# Altium integrated library AMCC PowerPC 405.IntLib: 46 symbols (part 1 of 12)
Pins are listed as number, name and electrical type; pins without a type are passive.

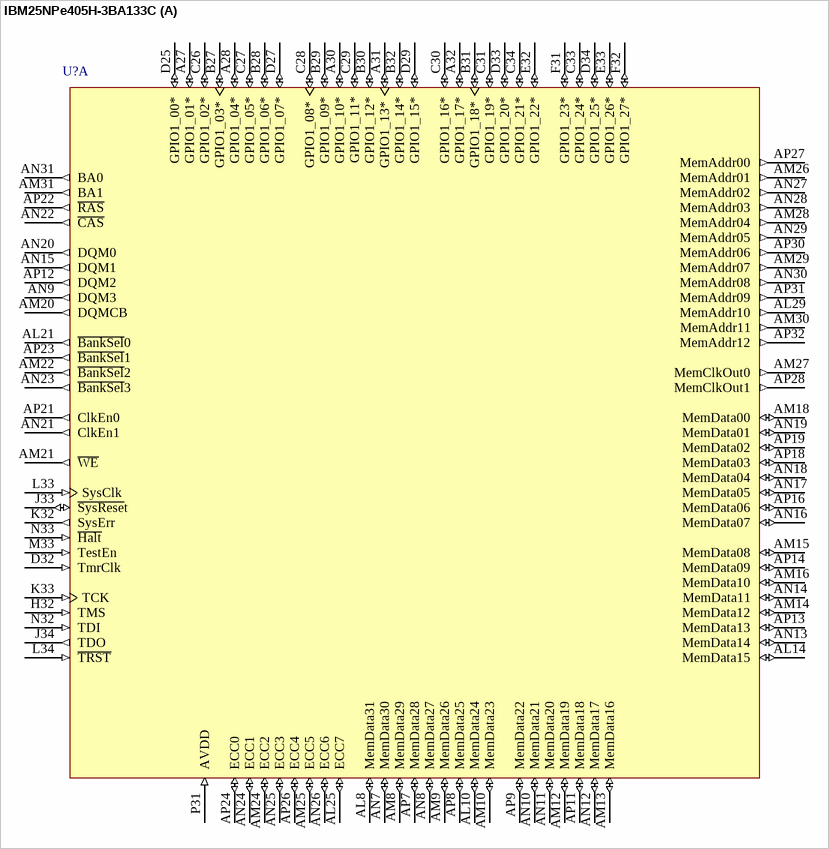
[diagram p0: symbol IBM25NPe405H-3BA133C]

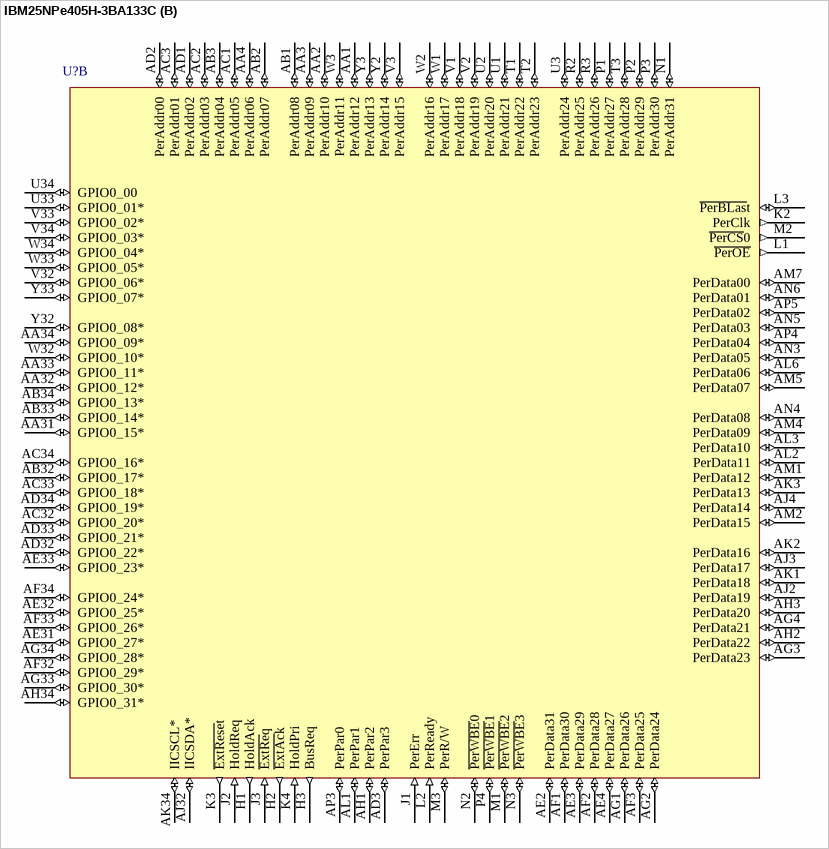
[diagram p1: symbol IBM25NPe405H-3BA133C]

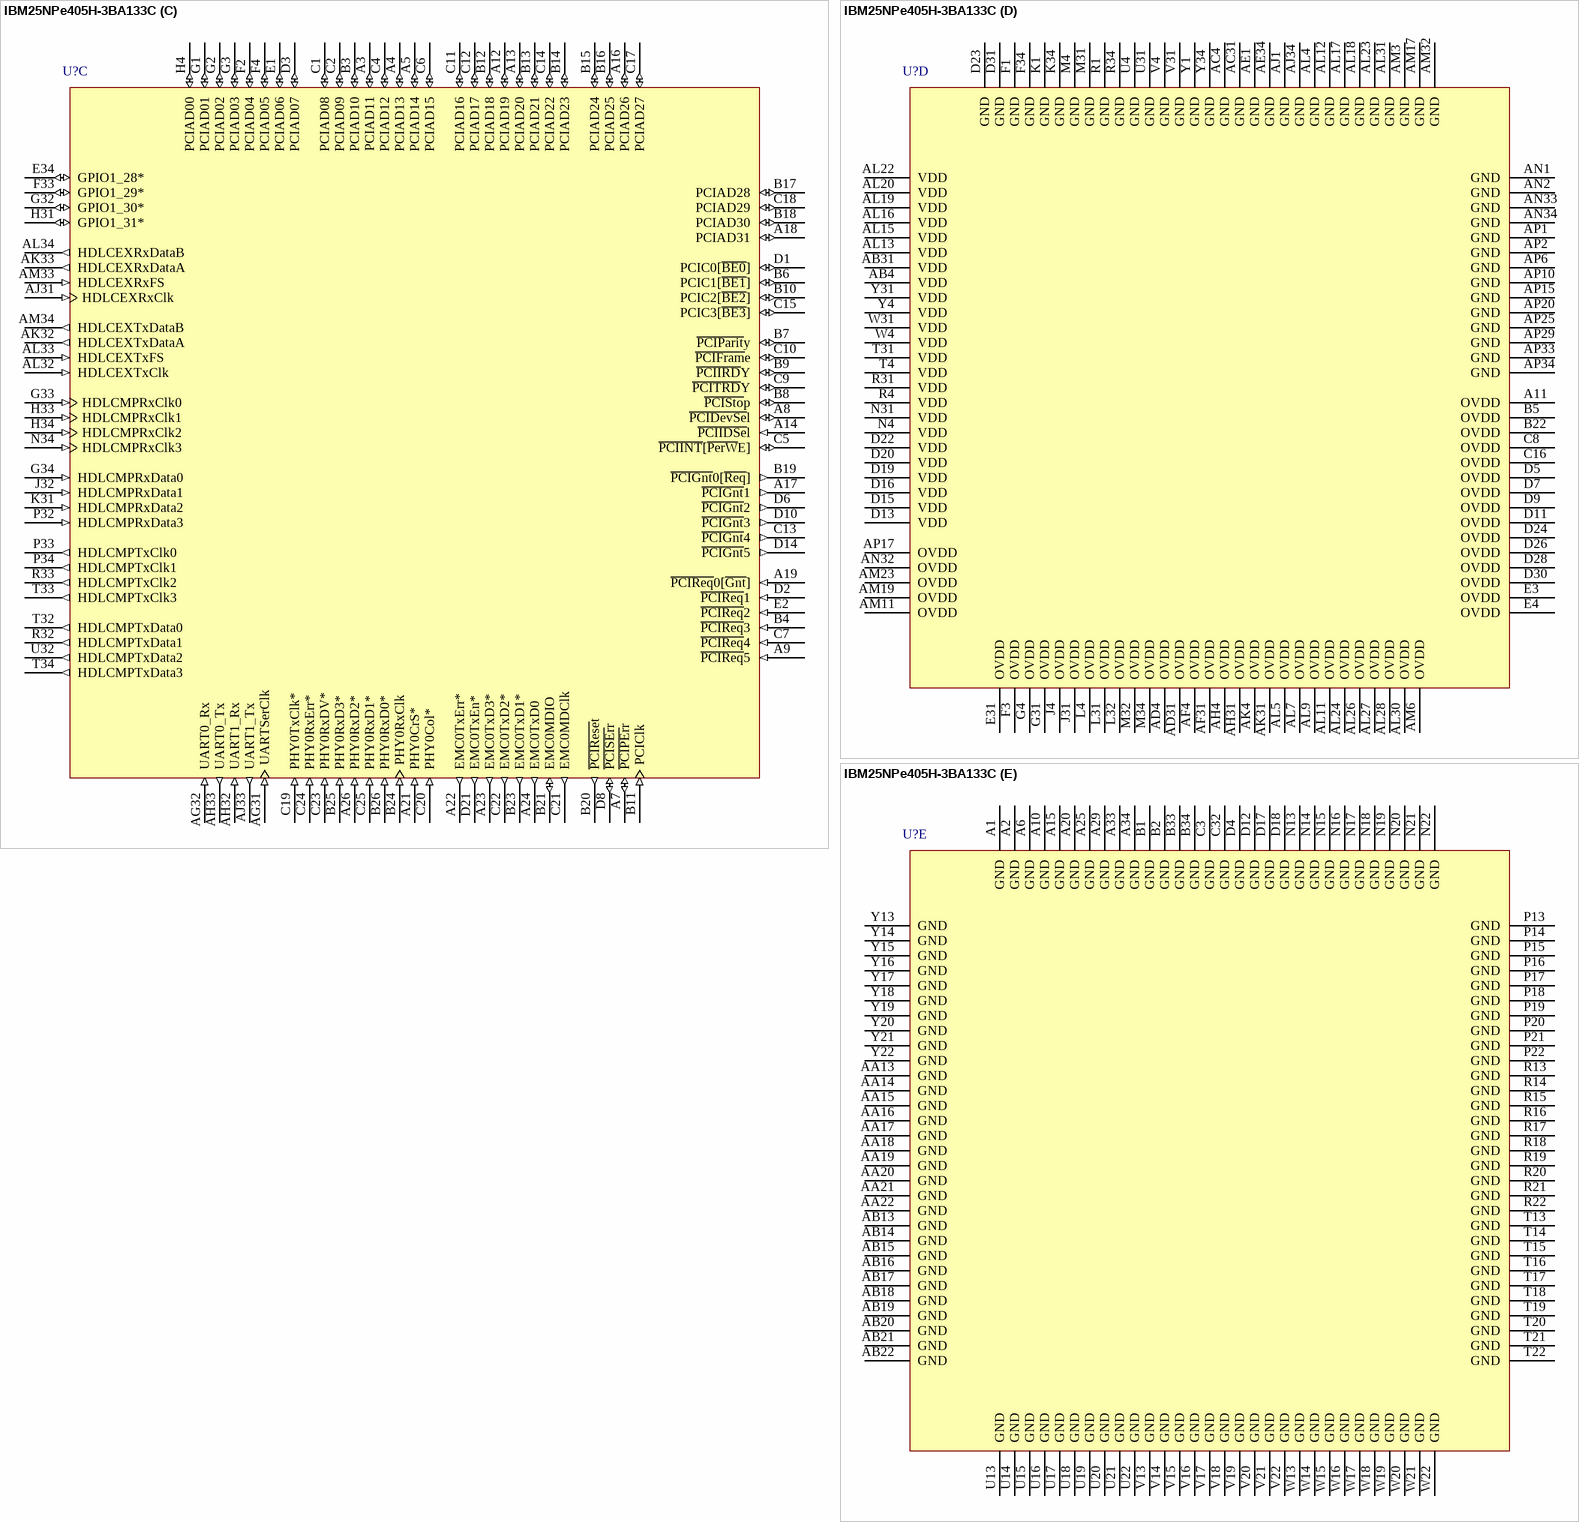
[diagram p2: symbol IBM25NPe405H-3BA133C]

## IBM25NPe405H-3BA133C
designator U?
PowerNP Technology with IBM PowerPC 405H Embedded Processor, 133MHz, 35mm, 580 Ball E-PBGA; Note: Pin names with asterisk have multiplexed and multipurpose signals. See description field for those functions.; Published: 6-Oct-2005; LatestRevisionDate: 13-Apr-2006; LatestRevisionNote: IPC-7351 Footprint Added.; DatasheetVersion: rev1.00, Sep-2004; PackageVersion: Sep-2004; PackageReference: E-PBGA580; Publisher: Altium Limited; PackageDescription: 580-Ball Enhanced Plastic Ball Grid Array; ComponentLink1Description: Manufacturer Link; ComponentLink1URL: http://www.amcc.com/; ComponentLink2Description: Datasheet; ComponentLink2URL: https://www.amcc.com/MyAMCC/retrieveDocument/PowerPC/NPe405/NPe405H_DS2011__v1_00.pdf
footprint E-PBGA580 (BGA, 580-Leads, Body 35x35mm, Pitch 1mm)
3D model NPe405H-E-PBGA580 (580-Ball Enhanced Plastic Ball Grid Array)
part A pins: A27 GPIO1_01* (io) "[HDLCMPTxData4][PHY1RxD1][PHY1Rx2D1]", A28 GPIO1_04* (io) "[HDLCMPRxData4][EMC1TxD0][EMC1Tx2D0]", A30 GPIO1_10* (io) "[HDLCMPTxClk6][PHY1CrS][PHY1CrS2DV]", A31 GPIO1_13* (io) "[HDLCMPRxClk6][PHY1RxClk]", A32 GPIO1_17* (io) "[HDLCMPTxEn7][PHY1TxClk]", AL8 MemData31 (io), AL10 MemData24 (io), AL14 MemData15 (io), AL21 ~{BankSel}0 (out), AL25 ECC7 (io), AL29 MemAddr10 (out), AM8 MemData29 (io), AM9 MemData26 (io), AM10 MemData23 (io), AM12 MemData19 (io), AM13 MemData16 (io), AM14 MemData12 (io), AM15 MemData08 (io), AM16 MemData10 (io), AM18 MemData00 (io), AM20 DQMCB (out), AM21 ~{WE} (out), AM22 ~{BankSel}2 (out), AM24 ECC2 (io), AM25 ECC5 (io), AM26 MemAddr01 (out), AM27 MemClkOut0 (out), AM28 MemAddr04 (out), AM29 MemAddr07 (out), AM30 MemAddr11 (out), AM31 BA1 (out), AN7 MemData30 (io), AN8 MemData27 (io), AN9 DQM3 (out), AN10 MemData21 (io), AN11 MemData20 (io), AN12 MemData17 (io), AN13 MemData14 (io), AN14 MemData11 (io), AN15 DQM1 (out), AN16 MemData07 (io), AN17 MemData05 (io), AN18 MemData04 (io), AN19 MemData01 (io), AN20 DQM0 (out), AN21 ClkEn1 (out), AN22 ~{CAS} (out), AN23 ~{BankSel}3 (out), AN24 ECC1 (io), AN25 ECC3 (io), AN26 ECC6 (io), AN27 MemAddr02 (out), AN28 MemAddr03 (out), AN29 MemAddr05 (out), AN30 MemAddr08 (out), AN31 BA0 (out), AP7 MemData28 (io), AP8 MemData25 (io), AP9 MemData22 (io), AP11 MemData18 (io), AP12 DQM2 (out), AP13 MemData13 (io), AP14 MemData09 (io), AP16 MemData06 (io), AP18 MemData03 (io), AP19 MemData02 (io), AP21 ClkEn0 (out), AP22 ~{RAS} (out), AP23 ~{BankSel}1 (out), AP24 ECC0 (io), AP26 ECC4 (io), AP27 MemAddr00 (out), AP28 MemClkOut1 (out), AP30 MemAddr06 (out), AP31 MemAddr09 (out), AP32 MemAddr12 (out), B27 GPIO1_03* (io) "[HDLCMPRxClk4][PHY1RxD3][PHY1Rx3D1]", B28 GPIO1_06* (io) "[HDLCMPTxData5][EMC1TxD2][EMC1Tx3D0]", B29 GPIO1_09* (io) "[HDLCMPRxData5][PHY1CrS3DV][PHY1RxDV]", B30 GPIO1_12* (io) "[HDLCMPTxEn6][EMC1TxEn][EMC1Tx2En]", B31 GPIO1_18* (io) "[HDLCMPRxClk7]", B32 GPIO1_14* (io) "[HDLCMPRxData6][PHY1Col][PHY1Rx3Er]", C26 GPIO1_02* (io) "[HDLCMPTxEn4][PHY1RxD2][PHY1Rx3D0]", C27 GPIO1_05* (io) "[HDLCMPTxClk5][EMC1TxD1][EMC1Tx2D1]", C28 GPIO1_08* (io) "[HDLCMPRxClk5][PHY1RxErr][PHY1Rx2Er]", C29 GPIO1_11* (io) "[HDLCMPTxData6][EMC1TxErr][EMC1Tx3En]", C30 GPIO1_16* (io) "[HDLCMPTxData7]", C31 GPIO1_19* (io) "[HDLCMPRxData7]", C33 GPIO1_24* (io) "[HDLCEXTxEnA][U\A\R\T\1_\R\T\S]", C34 GPIO1_21* (io) "[HDLCMPTxEn1][U\A\R\T\1\_\D\S\R]", D25 GPIO1_00* (io) "[HDLCMPTxClk4][PHY1RxD0][PHY1Rx2D0]", D27 GPIO1_07* (io) "[HDLCMPTxEn5][EMC1TxD3][EMC1Tx3D1]", D29 GPIO1_15* (io) "[HDLCMPTxClk7]", D32 TmrClk (in), D33 GPIO1_20* (io) "[HDLCMPTxEn0][U\A\R\T\1\_\C\T\S]", D34 GPIO1_25* (io) "[HDLCEXTxEnB][U\A\R\T\1\_D\T\R]", E32 GPIO1_22* (io) "[HDLCMPTxEn2][U\A\R\T\1\_D\C\D]", E33 GPIO1_26* (io) "[U\A\R\T\0\_\C\T\S]", F31 GPIO1_23* (io) "[HDLCMPTxEn3][U\A\R\T\1\_R\I]", F32 GPIO1_27* (io) "[U\A\R\T\0_\D\S\R]", H32 TMS (in), J33 ~{SysRese}t (io), J34 TDO (out), K32 SysErr (out), K33 TCK (in), L33 SysClk (in), L34 ~{TRST} (in), M33 TestEn (in), N32 TDI (in), N33 ~{Halt} (in), P31 AVDD (in)
part B pins: AA1 PerAddr12 (io), AA2 PerAddr10 (io), AA3 PerAddr09 (io), AA4 PerAddr06 (io), AA31 GPIO0_15* (io) "[D\M\A\A\c\k\2]", AA32 GPIO0_12* (io) "[D\M\A\R\e\q\3][P\e\r\C\S\4]", AA33 GPIO0_11* (io) "[D\M\A\R\e\q\2]", AA34 GPIO0_09* (io) "[D\M\A\R\e\q\0]", AB1 PerAddr08 (io), AB2 PerAddr07 (io), AB3 PerAddr04 (io), AB32 GPIO0_17* (io) "[IRQ0]", AB33 GPIO0_14* (io) "[D\M\A\A\c\k\1]", AB34 GPIO0_13* (io) "[D\M\A\A\c\k\0]", AC1 PerAddr05 (io), AC2 PerAddr03 (io), AC3 PerAddr01 (io), AC32 GPIO0_20* (io) "[IRQ3]", AC33 GPIO0_18* (io) "[IRQ1]", AC34 GPIO0_16* (io) "[D\M\A\A\c\k\3][P\e\r\C\S\5]", AD1 PerAddr02 (io), AD2 PerAddr00 (io), AD3 PerPar3 (io), AD32 GPIO0_22* (io) "[IRQ5]", AD33 GPIO0_21* (io) "[IRQ4]", AD34 GPIO0_19* (io) "[IRQ2]", AE2 PerData31 (io), AE3 PerData29 (io), AE4 PerData27 (io), AE31 GPIO0_27* (io) "[E\O\T\3\/T\C\3][P\e\r\C\S\7]", AE32 GPIO0_25* (io) "[E\O\T\1\/T\C\1]", AE33 GPIO0_23* (io) "[IRQ6][P\e\r\C\S\6]", AF1 PerData30 (io), AF2 PerData28 (io), AF3 PerData25 (io), AF32 GPIO0_29* (io) "[P\e\r\C\S\2]", AF33 GPIO0_26* (io) "[E\O\T\2\/T\C\2]", AF34 GPIO0_24* (io) "[E\O\T\0/T\C\0]", AG1 PerData26 (io), AG2 PerData24 (io), AG3 PerData23 (io), AG4 PerData21 (io), AG33 GPIO0_30* (io) "[P\e\r\C\S\3]", AG34 GPIO0_28* (io) "[P\e\r\C\S\1]", AH1 PerPar2 (io), AH2 PerData22 (io), AH3 PerData20 (io), AH34 GPIO0_31* (io) "[TrcClk]", AJ2 PerData19 (io), AJ3 PerData17 (io), AJ4 PerData14 (io), AJ32 IICSDA* (io) "[IECSDA]", AK1 PerData18 (io), AK2 PerData16 (io), AK3 PerData13 (io), AK34 IICSCL* (io) "[IECSCL]", AL1 PerPar1 (io), AL2 PerData11 (io), AL3 PerData10 (io), AL6 PerData06 (io), AM1 PerData12 (io), AM2 PerData15 (io), AM4 PerData09 (io), AM5 PerData07 (io), AM7 PerData00 (io), AN3 PerData05 (io), AN4 PerData08 (io), AN5 PerData03 (io), AN6 PerData01 (io), AP3 PerPar0 (io), AP4 PerData04 (io), AP5 PerData02 (io), H1 HoldAck (out), H2 ~{ExtAc}k (out), H3 BusReq (out), J1 PerErr (in), J2 HoldReq (in), J3 ~{ExtRe}q (in), K2 PerClk (out), K3 ~{ExtRese}t (out), K4 HoldPri (in), L1 ~{PerOE} (out), L2 PerReady (in), L3 ~{PerBLas}t (io), M1 ~{PerWBE}2 (io), M2 ~{PerCS}0 (out), M3 PerR/W (io), N1 PerAddr31 (io), N2 ~{PerWBE}0 (io), N3 ~{PerWBE}3 (io), P1 PerAddr27 (io), P2 PerAddr29 (io), P3 PerAddr30 (io), P4 ~{PerWBE}1 (io), R2 PerAddr25 (io), R3 PerAddr26 (io), T1 PerAddr22 (io), T2 PerAddr23 (io), T3 PerAddr28 (io), U1 PerAddr21 (io), U2 PerAddr20 (io), U3 PerAddr24 (io), U33 GPIO0_01* (io) "[TS1E]", U34 GPIO0_00 (io), V1 PerAddr18 (io), V2 PerAddr19 (io), V3 PerAddr15 (io), V32 GPIO0_06* (io) "[TS4]", V33 GPIO0_02* (io) "[TS2E]", V34 GPIO0_03* (io) "[TS1O]", W1 PerAddr17 (io), W2 PerAddr16 (io), W3 PerAddr11 (io), W32 GPIO0_10* (io) "[D\MA\R\e\q\1]", W33 GPIO0_05* (io) "[TS3]", W34 GPIO0_04* (io) "[TS2O]", Y2 PerAddr14 (io), Y3 PerAddr13 (io), Y32 GPIO0_08* (io) "[TS6]", Y33 GPIO0_07* (io) "[TS5]"
part C pins: A3 PCIAD11 (io), A4 PCIAD13 (io), A5 PCIAD14 (io), A7 ~{PCIPEr}r (io), A8 ~{PCIDevSe}l (io), A9 ~{PCIReq}5 (in), A12 PCIAD19 (io), A13 PCIAD20 (io), A14 ~{PCIIDSe}l (in), A16 PCIAD26 (io), A17 ~{PCIGnt}1 (out), A18 PCIAD31 (io), A19 ~{PCIReq}0[~{Gnt}] (in), A21 PHY0CrS* (in) "[PHY0CrS0DV]", A22 EMC0TxErr* (out) "[EMC0Tx1En]", A23 EMC0TxD3* (out) "[EMC0Tx1D1][EMC0Tx3D]", A24 EMC0TxD0 (out), A26 PHY0RxD2* (in) "[PHY0Rx1D0][PHY0Rx2D]", AG31 UARTSerClk (in), AG32 UART0_Rx (in), AH32 UART1_Rx (in), AH33 UART0_Tx (out), AJ31 HDLCEXRxClk (in), AJ33 UART1_Tx (out), AK32 HDLCEXTxDataA (out), AK33 HDLCEXRxDataA (out), AL32 HDLCEXTxClk (in), AL33 HDLCEXTxFS (in), AL34 HDLCEXRxDataB (out), AM33 HDLCEXRxFS (in), AM34 HDLCEXTxDataB (out), B3 PCIAD10 (io), B4 ~{PCIReq}3 (in), B6 PCIC1[~{BE1}] (io), B7 ~{PCIParit}y (io), B8 ~{PCISto}p (io), B9 ~{PCIIRD}Y (io), B10 PCIC2[~{BE2}] (io), B11 PCIClk (in), B12 PCIAD18 (io), B13 PCIAD21 (io), B14 PCIAD23 (io), B15 PCIAD24 (io), B16 PCIAD25 (io), B17 PCIAD28 (io), B18 PCIAD30 (io), B19 ~{PCIGnt}0[~{Req}] (out), B20 ~{PCIRese}t (out), B21 EMC0MDIO (io), B23 EMC0TxD1* (out) "[EMC0Tx0D1][EMC0Tx1D]", B24 PHY0RxClk (in), B25 PHY0RxD3* (in) "[PHY0Rx1D1][PHY0Rx3D]", B26 PHY0RxD0* (in) "[PHY0Rx0D0][PHY0Rx0D]", C1 PCIAD08 (io), C2 PCIAD09 (io), C4 PCIAD12 (io), C5 ~{PCIINT}[~{PerW}E] (io), C6 PCIAD15 (io), C7 ~{PCIReq}4 (in), C9 ~{PCITRD}Y (io), C10 ~{PCIFram}e (io), C11 PCIAD16 (io), C12 PCIAD17 (io), C13 ~{PCIGnt}4 (out), C14 PCIAD22 (io), C15 PCIC3[~{BE3}] (io), C17 PCIAD27 (io), C18 PCIAD29 (io), C19 PHY0TxClk* (in) "[PHY0RefClk]", C20 PHY0Col* (in) "[PHY0Rx1Er]", C21 EMC0MDClk (out), C22 EMC0TxD2* (out) "[EMC0Tx1D0][EMC0Tx2D]", C23 PHY0RxDV* (in) "[PHY0CrS1DV]", C24 PHY0RxErr* (in) "[PHY0Rx0Er]", C25 PHY0RxD1* (in) "[PHY0Rx0D1][PHY0Rx1D]", D1 PCIC0[~{BE0}] (io), D2 ~{PCIReq}1 (in), D3 PCIAD07 (io), D6 ~{PCIGnt}2 (out), D8 ~{PCISEr}r (io), D10 ~{PCIGnt}3 (out), D14 ~{PCIGnt}5 (out), D21 EMC0TxEn* (out) "[EMC0Tx0En][EMC0Sync]", E1 PCIAD06 (io), E2 ~{PCIReq}2 (in), E34 GPIO1_28* (io) "[U\A\R\T\0\_\D\C\D]", F2 PCIAD04 (io), F4 PCIAD05 (io), F33 GPIO1_29* (io) "[U\A\R\T\0\_R\I\]x", G1 PCIAD01 (io), G2 PCIAD02 (io), G3 PCIAD03 (io), G32 GPIO1_30* (io) "[U\A\R\T\0\_R\T\S]", G33 HDLCMPRxClk0 (in), G34 HDLCMPRxData0 (in), H4 PCIAD00 (io), H31 GPIO1_31* (io) "[U\A\R\T\0\_\D\T\R]", H33 HDLCMPRxClk1 (in), H34 HDLCMPRxClk2 (in), J32 HDLCMPRxData1 (in), K31 HDLCMPRxData2 (in), N34 HDLCMPRxClk3 (in), P32 HDLCMPRxData3 (in), P33 HDLCMPTxClk0 (out), P34 HDLCMPTxClk1 (out), R32 HDLCMPTxData1 (out), R33 HDLCMPTxClk2 (out), T32 HDLCMPTxData0 (out), T33 HDLCMPTxClk3 (out), T34 HDLCMPTxData3 (out), U32 HDLCMPTxData2 (out)
part D pins: A11 OVDD (power), AB4 VDD (power), AB31 VDD (power), AC4 GND (power), AC31 GND (power), AD4 OVDD (power), AD31 OVDD (power), AE1 GND (power), AE34 GND (power), AF4 OVDD (power), AF31 OVDD (power), AH4 OVDD (power), AH31 OVDD (power), AJ1 GND (power), AJ34 GND (power), AK4 OVDD (power), AK31 OVDD (power), AL4 GND (power), AL5 OVDD (power), AL7 OVDD (power), AL9 OVDD (power), AL11 OVDD (power), AL12 GND (power), AL13 VDD (power), AL15 VDD (power), AL16 VDD (power), AL17 GND (power), AL18 GND (power), AL19 VDD (power), AL20 VDD (power), AL22 VDD (power), AL23 GND (power), AL24 OVDD (power), AL26 OVDD (power), AL27 OVDD (power), AL28 OVDD (power), AL30 OVDD (power), AL31 GND (power), AM3 GND (power), AM6 OVDD (power), AM11 OVDD (power), AM17 GND (power), AM19 OVDD (power), AM23 OVDD (power), AM32 GND (power), AN1 GND (power), AN2 GND (power), AN32 OVDD (power), AN33 GND (power), AN34 GND (power), AP1 GND (power), AP2 GND (power), AP6 GND (power), AP10 GND (power), AP15 GND (power), AP17 OVDD (power), AP20 GND (power), AP25 GND (power), AP29 GND (power), AP33 GND (power), AP34 GND (power), B5 OVDD (power), B22 OVDD (power), C8 OVDD (power), C16 OVDD (power), D5 OVDD (power), D7 OVDD (power), D9 OVDD (power), D11 OVDD (power), D13 VDD (power), D15 VDD (power), D16 VDD (power), D19 VDD (power), D20 VDD (power), D22 VDD (power), D23 GND (power), D24 OVDD (power), D26 OVDD (power), D28 OVDD (power), D30 OVDD (power), D31 GND (power), E3 OVDD (power), E4 OVDD (power), E31 OVDD (power), F1 GND (power), F3 OVDD (power), F34 GND (power), G4 OVDD (power), G31 OVDD (power), J4 OVDD (power), J31 OVDD (power), K1 GND (power), K34 GND (power), L4 OVDD (power), L31 OVDD (power), L32 OVDD (power), M4 GND (power), M31 GND (power), M32 OVDD (power), M34 OVDD (power), N4 VDD (power), N31 VDD (power), R1 GND (power), R4 VDD (power), R31 VDD (power), R34 GND (power), T4 VDD (power), T31 VDD (power), U4 GND (power), U31 GND (power), V4 GND (power), V31 GND (power), W4 VDD (power), W31 VDD (power), Y1 GND (power), Y4 VDD (power), Y31 VDD (power), Y34 GND (power)
part E pins: A1 GND (power), A2 GND (power), A6 GND (power), A10 GND (power), A15 GND (power), A20 GND (power), A25 GND (power), A29 GND (power), A33 GND (power), A34 GND (power), AA13 GND (power) "Thermal Balls", AA14 GND (power) "Thermal Balls", AA15 GND (power) "Thermal Balls", AA16 GND (power) "Thermal Balls", AA17 GND (power) "Thermal Balls", AA18 GND (power) "Thermal Balls", AA19 GND (power) "Thermal Balls", AA20 GND (power) "Thermal Balls", AA21 GND (power) "Thermal Balls", AA22 GND (power) "Thermal Balls", AB13 GND (power) "Thermal Balls", AB14 GND (power) "Thermal Balls", AB15 GND (power) "Thermal Balls", AB16 GND (power) "Thermal Balls", AB17 GND (power) "Thermal Balls", AB18 GND (power) "Thermal Balls", AB19 GND (power) "Thermal Balls", AB20 GND (power) "Thermal Balls", AB21 GND (power) "Thermal Balls", AB22 GND (power) "Thermal Balls", B1 GND (power), B2 GND (power), B33 GND (power), B34 GND (power), C3 GND (power), C32 GND (power), D4 GND (power), D12 GND (power), D17 GND (power), D18 GND (power), N13 GND (power) "Thermal Balls", N14 GND (power) "Thermal Balls", N15 GND (power) "Thermal Balls", N16 GND (power) "Thermal Balls", N17 GND (power) "Thermal Balls", N18 GND (power) "Thermal Balls", N19 GND (power) "Thermal Balls", N20 GND (power) "Thermal Balls", N21 GND (power) "Thermal Balls", N22 GND (power) "Thermal Balls", P13 GND (power) "Thermal Balls", P14 GND (power) "Thermal Balls", P15 GND (power) "Thermal Balls", P16 GND (power) "Thermal Balls", P17 GND (power) "Thermal Balls", P18 GND (power) "Thermal Balls", P19 GND (power) "Thermal Balls", P20 GND (power) "Thermal Balls", P21 GND (power) "Thermal Balls", P22 GND (power) "Thermal Balls", R13 GND (power) "Thermal Balls", R14 GND (power) "Thermal Balls", R15 GND (power) "Thermal Balls", R16 GND (power) "Thermal Balls", R17 GND (power) "Thermal Balls", R18 GND (power) "Thermal Balls", R19 GND (power) "Thermal Balls", R20 GND (power) "Thermal Balls", R21 GND (power) "Thermal Balls", R22 GND (power) "Thermal Balls", T13 GND (power) "Thermal Balls", T14 GND (power) "Thermal Balls", T15 GND (power) "Thermal Balls", T16 GND (power) "Thermal Balls", T17 GND (power) "Thermal Balls", T18 GND (power) "Thermal Balls", T19 GND (power) "Thermal Balls", T20 GND (power) "Thermal Balls", T21 GND (power) "Thermal Balls", T22 GND (power) "Thermal Balls", U13 GND (power) "Thermal Balls", U14 GND (power) "Thermal Balls", U15 GND (power) "Thermal Balls", U16 GND (power) "Thermal Balls", U17 GND (power) "Thermal Balls", U18 GND (power) "Thermal Balls", U19 GND (power) "Thermal Balls", U20 GND (power) "Thermal Balls", U21 GND (power) "Thermal Balls", U22 GND (power) "Thermal Balls", V13 GND (power) "Thermal Balls", V14 GND (power) "Thermal Balls", V15 GND (power) "Thermal Balls", V16 GND (power) "Thermal Balls", V17 GND (power) "Thermal Balls", V18 GND (power) "Thermal Balls", V19 GND (power) "Thermal Balls", V20 GND (power) "Thermal Balls", V21 GND (power) "Thermal Balls", V22 GND (power) "Thermal Balls", W13 GND (power) "Thermal Balls", W14 GND (power) "Thermal Balls", W15 GND (power) "Thermal Balls", W16 GND (power) "Thermal Balls", W17 GND (power) "Thermal Balls", W18 GND (power) "Thermal Balls", W19 GND (power) "Thermal Balls", W20 GND (power) "Thermal Balls", W21 GND (power) "Thermal Balls", W22 GND (power) "Thermal Balls", Y13 GND (power) "Thermal Balls", Y14 GND (power) "Thermal Balls", Y15 GND (power) "Thermal Balls", Y16 GND (power) "Thermal Balls", Y17 GND (power) "Thermal Balls", Y18 GND (power) "Thermal Balls", Y19 GND (power) "Thermal Balls", Y20 GND (power) "Thermal Balls", Y21 GND (power) "Thermal Balls", Y22 GND (power) "Thermal Balls"

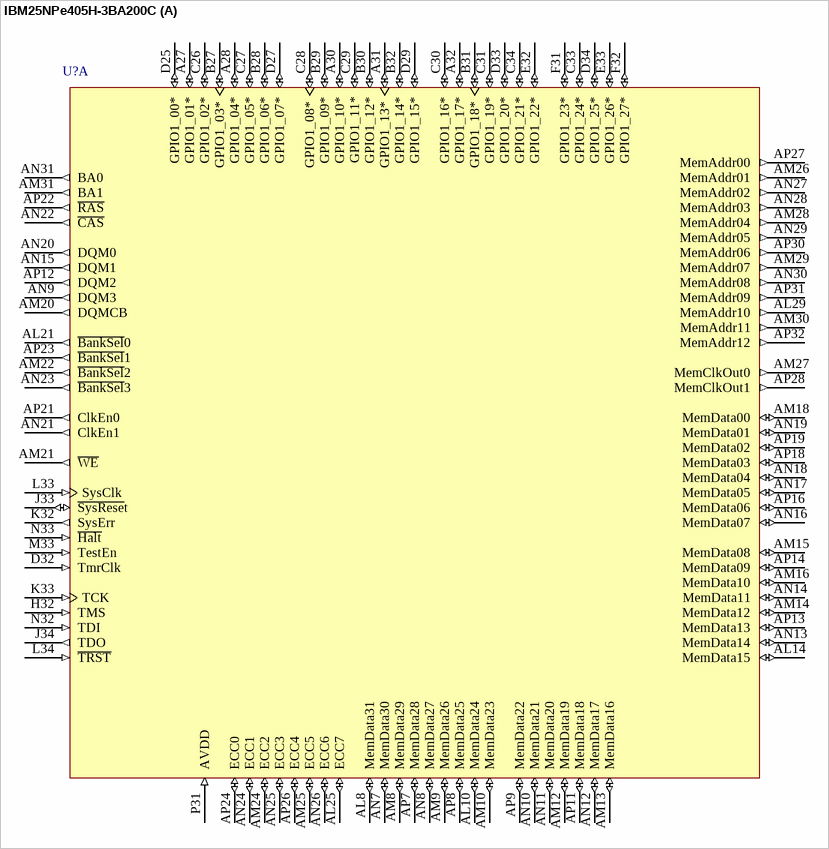
[diagram p3: symbol IBM25NPe405H-3BA200C]

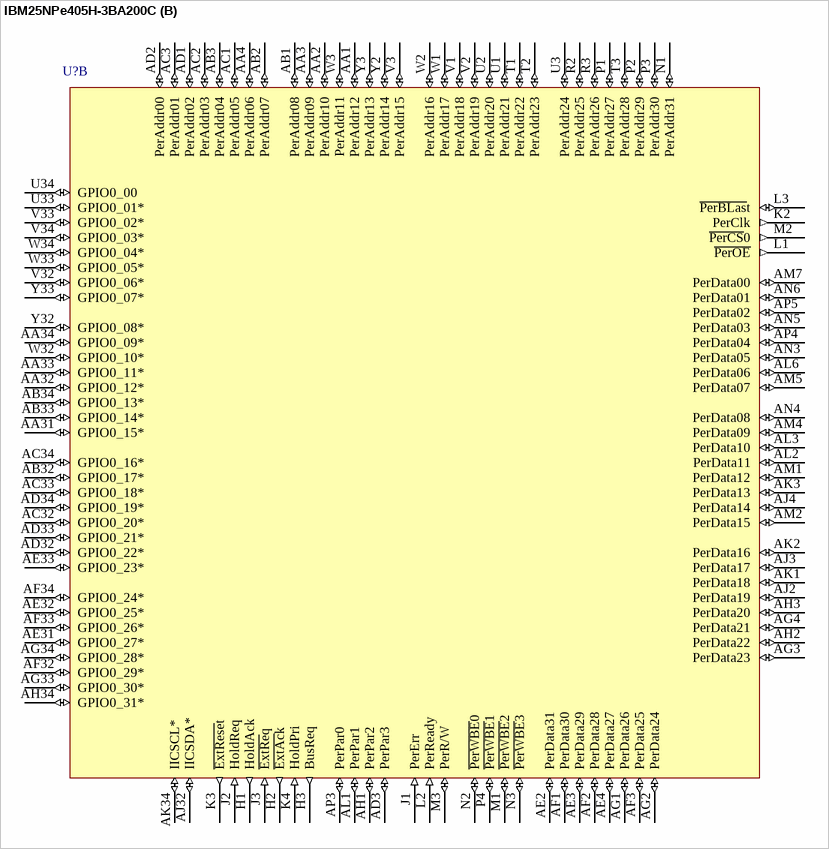
[diagram p4: symbol IBM25NPe405H-3BA200C]

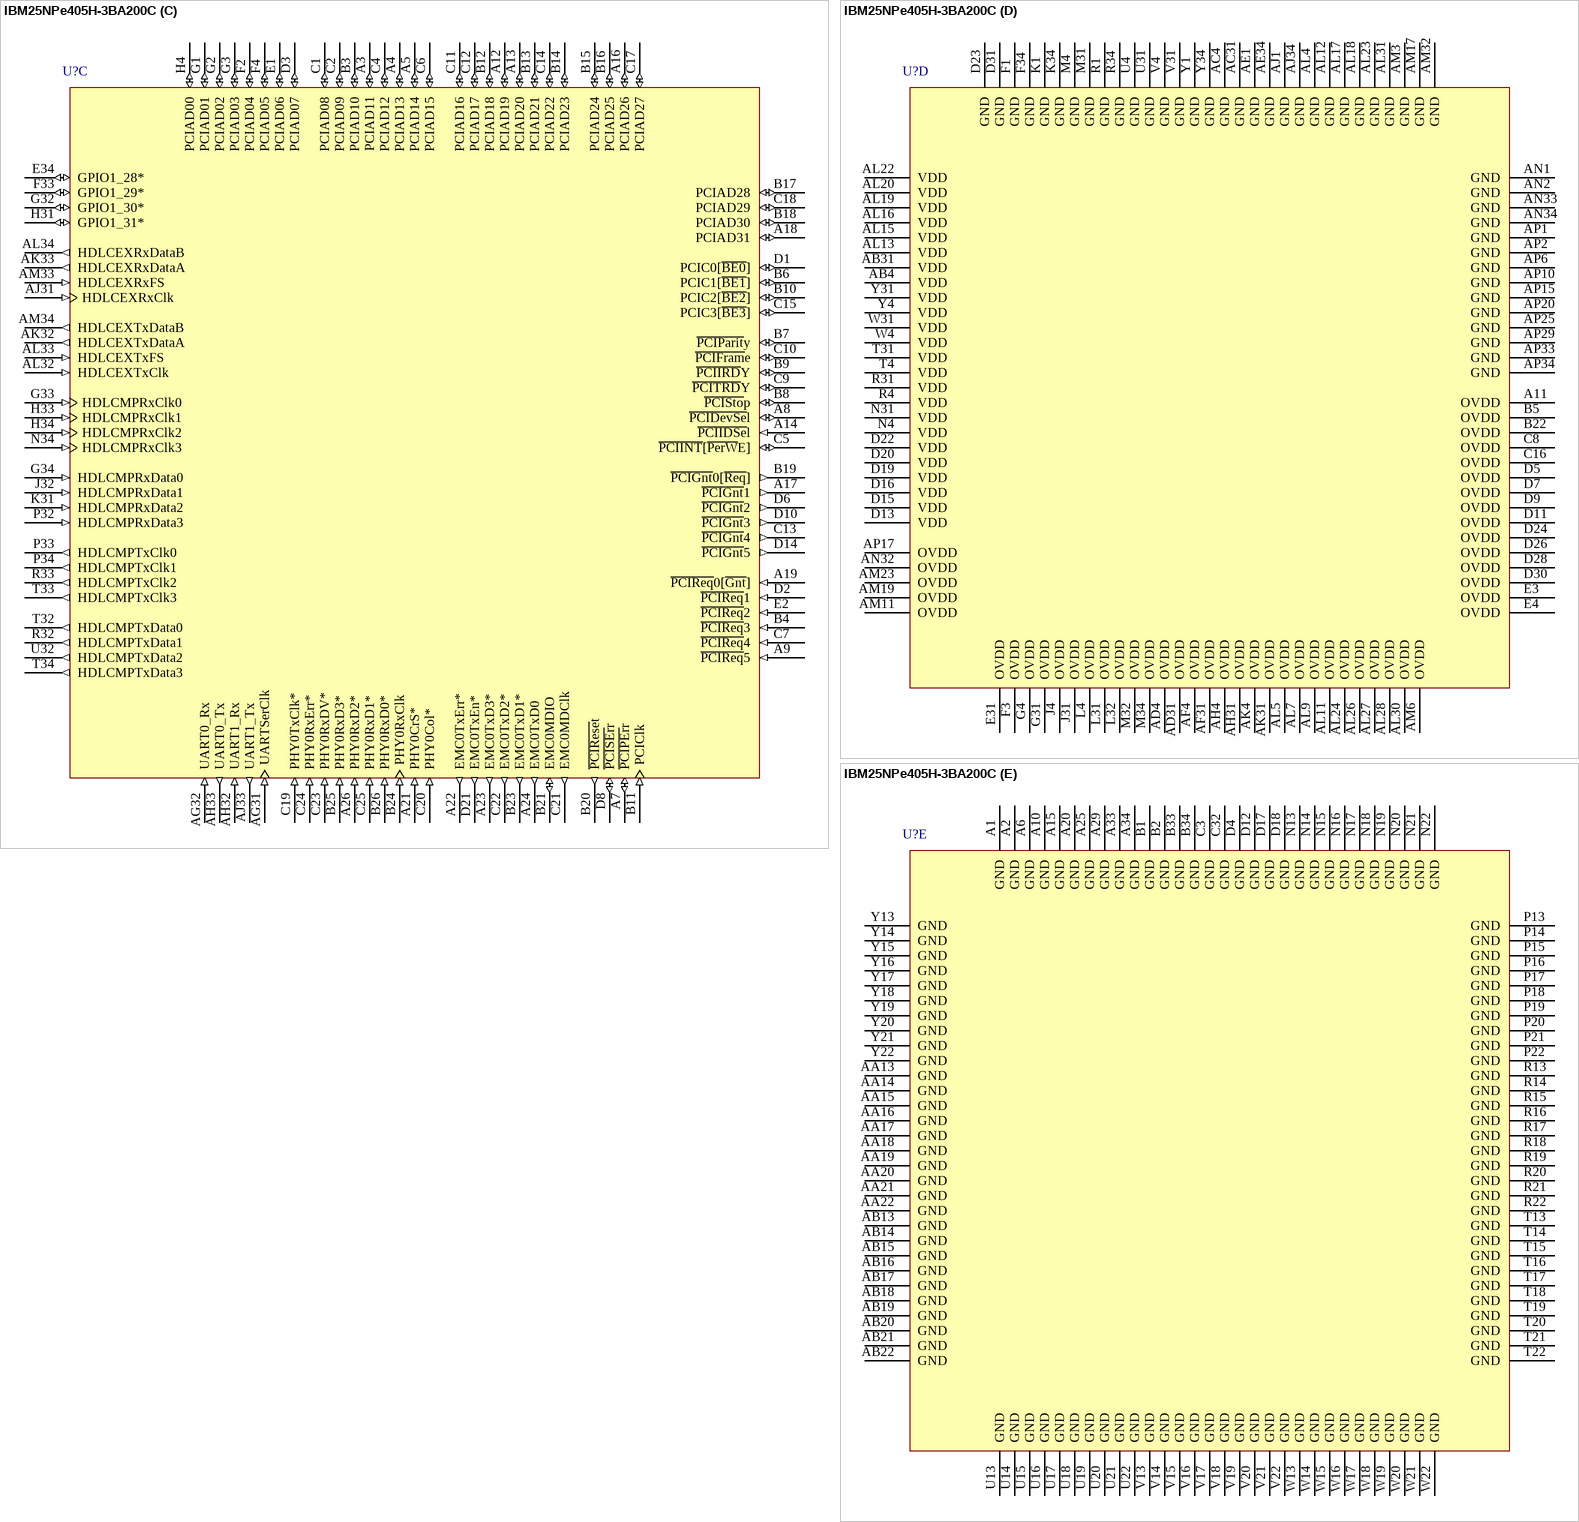
[diagram p5: symbol IBM25NPe405H-3BA200C]

## IBM25NPe405H-3BA200C
designator U?
PowerNP Technology with IBM PowerPC 405H Embedded Processor, 200MHz, 35mm, 580 Ball E-PBGA; Note: Pin names with asterisk have multiplexed and multipurpose signals. See description field for those functions.; Published: 6-Oct-2005; LatestRevisionDate: 13-Apr-2006; LatestRevisionNote: IPC-7351 Footprint Added.; DatasheetVersion: rev1.00, Sep-2004; PackageVersion: Sep-2004; PackageReference: E-PBGA580; Publisher: Altium Limited; PackageDescription: 580-Ball Enhanced Plastic Ball Grid Array; ComponentLink1Description: Manufacturer Link; ComponentLink1URL: http://www.amcc.com/; ComponentLink2Description: Datasheet; ComponentLink2URL: https://www.amcc.com/MyAMCC/retrieveDocument/PowerPC/NPe405/NPe405H_DS2011__v1_00.pdf
footprint E-PBGA580 (BGA, 580-Leads, Body 35x35mm, Pitch 1mm)
3D model NPe405H-E-PBGA580 (580-Ball Enhanced Plastic Ball Grid Array)
part A pins: A27 GPIO1_01* (io) "[HDLCMPTxData4][PHY1RxD1][PHY1Rx2D1]", A28 GPIO1_04* (io) "[HDLCMPRxData4][EMC1TxD0][EMC1Tx2D0]", A30 GPIO1_10* (io) "[HDLCMPTxClk6][PHY1CrS][PHY1CrS2DV]", A31 GPIO1_13* (io) "[HDLCMPRxClk6][PHY1RxClk]", A32 GPIO1_17* (io) "[HDLCMPTxEn7][PHY1TxClk]", AL8 MemData31 (io), AL10 MemData24 (io), AL14 MemData15 (io), AL21 ~{BankSel}0 (out), AL25 ECC7 (io), AL29 MemAddr10 (out), AM8 MemData29 (io), AM9 MemData26 (io), AM10 MemData23 (io), AM12 MemData19 (io), AM13 MemData16 (io), AM14 MemData12 (io), AM15 MemData08 (io), AM16 MemData10 (io), AM18 MemData00 (io), AM20 DQMCB (out), AM21 ~{WE} (out), AM22 ~{BankSel}2 (out), AM24 ECC2 (io), AM25 ECC5 (io), AM26 MemAddr01 (out), AM27 MemClkOut0 (out), AM28 MemAddr04 (out), AM29 MemAddr07 (out), AM30 MemAddr11 (out), AM31 BA1 (out), AN7 MemData30 (io), AN8 MemData27 (io), AN9 DQM3 (out), AN10 MemData21 (io), AN11 MemData20 (io), AN12 MemData17 (io), AN13 MemData14 (io), AN14 MemData11 (io), AN15 DQM1 (out), AN16 MemData07 (io), AN17 MemData05 (io), AN18 MemData04 (io), AN19 MemData01 (io), AN20 DQM0 (out), AN21 ClkEn1 (out), AN22 ~{CAS} (out), AN23 ~{BankSel}3 (out), AN24 ECC1 (io), AN25 ECC3 (io), AN26 ECC6 (io), AN27 MemAddr02 (out), AN28 MemAddr03 (out), AN29 MemAddr05 (out), AN30 MemAddr08 (out), AN31 BA0 (out), AP7 MemData28 (io), AP8 MemData25 (io), AP9 MemData22 (io), AP11 MemData18 (io), AP12 DQM2 (out), AP13 MemData13 (io), AP14 MemData09 (io), AP16 MemData06 (io), AP18 MemData03 (io), AP19 MemData02 (io), AP21 ClkEn0 (out), AP22 ~{RAS} (out), AP23 ~{BankSel}1 (out), AP24 ECC0 (io), AP26 ECC4 (io), AP27 MemAddr00 (out), AP28 MemClkOut1 (out), AP30 MemAddr06 (out), AP31 MemAddr09 (out), AP32 MemAddr12 (out), B27 GPIO1_03* (io) "[HDLCMPRxClk4][PHY1RxD3][PHY1Rx3D1]", B28 GPIO1_06* (io) "[HDLCMPTxData5][EMC1TxD2][EMC1Tx3D0]", B29 GPIO1_09* (io) "[HDLCMPRxData5][PHY1CrS3DV][PHY1RxDV]", B30 GPIO1_12* (io) "[HDLCMPTxEn6][EMC1TxEn][EMC1Tx2En]", B31 GPIO1_18* (io) "[HDLCMPRxClk7]", B32 GPIO1_14* (io) "[HDLCMPRxData6][PHY1Col][PHY1Rx3Er]", C26 GPIO1_02* (io) "[HDLCMPTxEn4][PHY1RxD2][PHY1Rx3D0]", C27 GPIO1_05* (io) "[HDLCMPTxClk5][EMC1TxD1][EMC1Tx2D1]", C28 GPIO1_08* (io) "[HDLCMPRxClk5][PHY1RxErr][PHY1Rx2Er]", C29 GPIO1_11* (io) "[HDLCMPTxData6][EMC1TxErr][EMC1Tx3En]", C30 GPIO1_16* (io) "[HDLCMPTxData7]", C31 GPIO1_19* (io) "[HDLCMPRxData7]", C33 GPIO1_24* (io) "[HDLCEXTxEnA][U\A\R\T\1_\R\T\S]", C34 GPIO1_21* (io) "[HDLCMPTxEn1][U\A\R\T\1\_\D\S\R]", D25 GPIO1_00* (io) "[HDLCMPTxClk4][PHY1RxD0][PHY1Rx2D0]", D27 GPIO1_07* (io) "[HDLCMPTxEn5][EMC1TxD3][EMC1Tx3D1]", D29 GPIO1_15* (io) "[HDLCMPTxClk7]", D32 TmrClk (in), D33 GPIO1_20* (io) "[HDLCMPTxEn0][U\A\R\T\1\_\C\T\S]", D34 GPIO1_25* (io) "[HDLCEXTxEnB][U\A\R\T\1\_D\T\R]", E32 GPIO1_22* (io) "[HDLCMPTxEn2][U\A\R\T\1\_D\C\D]", E33 GPIO1_26* (io) "[U\A\R\T\0\_\C\T\S]", F31 GPIO1_23* (io) "[HDLCMPTxEn3][U\A\R\T\1\_R\I]", F32 GPIO1_27* (io) "[U\A\R\T\0_\D\S\R]", H32 TMS (in), J33 ~{SysRese}t (io), J34 TDO (out), K32 SysErr (out), K33 TCK (in), L33 SysClk (in), L34 ~{TRST} (in), M33 TestEn (in), N32 TDI (in), N33 ~{Halt} (in), P31 AVDD (in)
part B pins: AA1 PerAddr12 (io), AA2 PerAddr10 (io), AA3 PerAddr09 (io), AA4 PerAddr06 (io), AA31 GPIO0_15* (io) "[D\M\A\A\c\k\2]", AA32 GPIO0_12* (io) "[D\M\A\R\e\q\3][P\e\r\C\S\4]", AA33 GPIO0_11* (io) "[D\M\A\R\e\q\2]", AA34 GPIO0_09* (io) "[D\M\A\R\e\q\0]", AB1 PerAddr08 (io), AB2 PerAddr07 (io), AB3 PerAddr04 (io), AB32 GPIO0_17* (io) "[IRQ0]", AB33 GPIO0_14* (io) "[D\M\A\A\c\k\1]", AB34 GPIO0_13* (io) "[D\M\A\A\c\k\0]", AC1 PerAddr05 (io), AC2 PerAddr03 (io), AC3 PerAddr01 (io), AC32 GPIO0_20* (io) "[IRQ3]", AC33 GPIO0_18* (io) "[IRQ1]", AC34 GPIO0_16* (io) "[D\M\A\A\c\k\3][P\e\r\C\S\5]", AD1 PerAddr02 (io), AD2 PerAddr00 (io), AD3 PerPar3 (io), AD32 GPIO0_22* (io) "[IRQ5]", AD33 GPIO0_21* (io) "[IRQ4]", AD34 GPIO0_19* (io) "[IRQ2]", AE2 PerData31 (io), AE3 PerData29 (io), AE4 PerData27 (io), AE31 GPIO0_27* (io) "[E\O\T\3\/T\C\3][P\e\r\C\S\7]", AE32 GPIO0_25* (io) "[E\O\T\1\/T\C\1]", AE33 GPIO0_23* (io) "[IRQ6][P\e\r\C\S\6]", AF1 PerData30 (io), AF2 PerData28 (io), AF3 PerData25 (io), AF32 GPIO0_29* (io) "[P\e\r\C\S\2]", AF33 GPIO0_26* (io) "[E\O\T\2\/T\C\2]", AF34 GPIO0_24* (io) "[E\O\T\0/T\C\0]", AG1 PerData26 (io), AG2 PerData24 (io), AG3 PerData23 (io), AG4 PerData21 (io), AG33 GPIO0_30* (io) "[P\e\r\C\S\3]", AG34 GPIO0_28* (io) "[P\e\r\C\S\1]", AH1 PerPar2 (io), AH2 PerData22 (io), AH3 PerData20 (io), AH34 GPIO0_31* (io) "[TrcClk]", AJ2 PerData19 (io), AJ3 PerData17 (io), AJ4 PerData14 (io), AJ32 IICSDA* (io) "[IECSDA]", AK1 PerData18 (io), AK2 PerData16 (io), AK3 PerData13 (io), AK34 IICSCL* (io) "[IECSCL]", AL1 PerPar1 (io), AL2 PerData11 (io), AL3 PerData10 (io), AL6 PerData06 (io), AM1 PerData12 (io), AM2 PerData15 (io), AM4 PerData09 (io), AM5 PerData07 (io), AM7 PerData00 (io), AN3 PerData05 (io), AN4 PerData08 (io), AN5 PerData03 (io), AN6 PerData01 (io), AP3 PerPar0 (io), AP4 PerData04 (io), AP5 PerData02 (io), H1 HoldAck (out), H2 ~{ExtAc}k (out), H3 BusReq (out), J1 PerErr (in), J2 HoldReq (in), J3 ~{ExtRe}q (in), K2 PerClk (out), K3 ~{ExtRese}t (out), K4 HoldPri (in), L1 ~{PerOE} (out), L2 PerReady (in), L3 ~{PerBLas}t (io), M1 ~{PerWBE}2 (io), M2 ~{PerCS}0 (out), M3 PerR/W (io), N1 PerAddr31 (io), N2 ~{PerWBE}0 (io), N3 ~{PerWBE}3 (io), P1 PerAddr27 (io), P2 PerAddr29 (io), P3 PerAddr30 (io), P4 ~{PerWBE}1 (io), R2 PerAddr25 (io), R3 PerAddr26 (io), T1 PerAddr22 (io), T2 PerAddr23 (io), T3 PerAddr28 (io), U1 PerAddr21 (io), U2 PerAddr20 (io), U3 PerAddr24 (io), U33 GPIO0_01* (io) "[TS1E]", U34 GPIO0_00 (io), V1 PerAddr18 (io), V2 PerAddr19 (io), V3 PerAddr15 (io), V32 GPIO0_06* (io) "[TS4]", V33 GPIO0_02* (io) "[TS2E]", V34 GPIO0_03* (io) "[TS1O]", W1 PerAddr17 (io), W2 PerAddr16 (io), W3 PerAddr11 (io), W32 GPIO0_10* (io) "[D\MA\R\e\q\1]", W33 GPIO0_05* (io) "[TS3]", W34 GPIO0_04* (io) "[TS2O]", Y2 PerAddr14 (io), Y3 PerAddr13 (io), Y32 GPIO0_08* (io) "[TS6]", Y33 GPIO0_07* (io) "[TS5]"
part C pins: A3 PCIAD11 (io), A4 PCIAD13 (io), A5 PCIAD14 (io), A7 ~{PCIPEr}r (io), A8 ~{PCIDevSe}l (io), A9 ~{PCIReq}5 (in), A12 PCIAD19 (io), A13 PCIAD20 (io), A14 ~{PCIIDSe}l (in), A16 PCIAD26 (io), A17 ~{PCIGnt}1 (out), A18 PCIAD31 (io), A19 ~{PCIReq}0[~{Gnt}] (in), A21 PHY0CrS* (in) "[PHY0CrS0DV]", A22 EMC0TxErr* (out) "[EMC0Tx1En]", A23 EMC0TxD3* (out) "[EMC0Tx1D1][EMC0Tx3D]", A24 EMC0TxD0 (out), A26 PHY0RxD2* (in) "[PHY0Rx1D0][PHY0Rx2D]", AG31 UARTSerClk (in), AG32 UART0_Rx (in), AH32 UART1_Rx (in), AH33 UART0_Tx (out), AJ31 HDLCEXRxClk (in), AJ33 UART1_Tx (out), AK32 HDLCEXTxDataA (out), AK33 HDLCEXRxDataA (out), AL32 HDLCEXTxClk (in), AL33 HDLCEXTxFS (in), AL34 HDLCEXRxDataB (out), AM33 HDLCEXRxFS (in), AM34 HDLCEXTxDataB (out), B3 PCIAD10 (io), B4 ~{PCIReq}3 (in), B6 PCIC1[~{BE1}] (io), B7 ~{PCIParit}y (io), B8 ~{PCISto}p (io), B9 ~{PCIIRD}Y (io), B10 PCIC2[~{BE2}] (io), B11 PCIClk (in), B12 PCIAD18 (io), B13 PCIAD21 (io), B14 PCIAD23 (io), B15 PCIAD24 (io), B16 PCIAD25 (io), B17 PCIAD28 (io), B18 PCIAD30 (io), B19 ~{PCIGnt}0[~{Req}] (out), B20 ~{PCIRese}t (out), B21 EMC0MDIO (io), B23 EMC0TxD1* (out) "[EMC0Tx0D1][EMC0Tx1D]", B24 PHY0RxClk (in), B25 PHY0RxD3* (in) "[PHY0Rx1D1][PHY0Rx3D]", B26 PHY0RxD0* (in) "[PHY0Rx0D0][PHY0Rx0D]", C1 PCIAD08 (io), C2 PCIAD09 (io), C4 PCIAD12 (io), C5 ~{PCIINT}[~{PerW}E] (io), C6 PCIAD15 (io), C7 ~{PCIReq}4 (in), C9 ~{PCITRD}Y (io), C10 ~{PCIFram}e (io), C11 PCIAD16 (io), C12 PCIAD17 (io), C13 ~{PCIGnt}4 (out), C14 PCIAD22 (io), C15 PCIC3[~{BE3}] (io), C17 PCIAD27 (io), C18 PCIAD29 (io), C19 PHY0TxClk* (in) "[PHY0RefClk]", C20 PHY0Col* (in) "[PHY0Rx1Er]", C21 EMC0MDClk (out), C22 EMC0TxD2* (out) "[EMC0Tx1D0][EMC0Tx2D]", C23 PHY0RxDV* (in) "[PHY0CrS1DV]", C24 PHY0RxErr* (in) "[PHY0Rx0Er]", C25 PHY0RxD1* (in) "[PHY0Rx0D1][PHY0Rx1D]", D1 PCIC0[~{BE0}] (io), D2 ~{PCIReq}1 (in), D3 PCIAD07 (io), D6 ~{PCIGnt}2 (out), D8 ~{PCISEr}r (io), D10 ~{PCIGnt}3 (out), D14 ~{PCIGnt}5 (out), D21 EMC0TxEn* (out) "[EMC0Tx0En][EMC0Sync]", E1 PCIAD06 (io), E2 ~{PCIReq}2 (in), E34 GPIO1_28* (io) "[U\A\R\T\0\_\D\C\D]", F2 PCIAD04 (io), F4 PCIAD05 (io), F33 GPIO1_29* (io) "[U\A\R\T\0\_R\I\]x", G1 PCIAD01 (io), G2 PCIAD02 (io), G3 PCIAD03 (io), G32 GPIO1_30* (io) "[U\A\R\T\0\_R\T\S]", G33 HDLCMPRxClk0 (in), G34 HDLCMPRxData0 (in), H4 PCIAD00 (io), H31 GPIO1_31* (io) "[U\A\R\T\0\_\D\T\R]", H33 HDLCMPRxClk1 (in), H34 HDLCMPRxClk2 (in), J32 HDLCMPRxData1 (in), K31 HDLCMPRxData2 (in), N34 HDLCMPRxClk3 (in), P32 HDLCMPRxData3 (in), P33 HDLCMPTxClk0 (out), P34 HDLCMPTxClk1 (out), R32 HDLCMPTxData1 (out), R33 HDLCMPTxClk2 (out), T32 HDLCMPTxData0 (out), T33 HDLCMPTxClk3 (out), T34 HDLCMPTxData3 (out), U32 HDLCMPTxData2 (out)
part D pins: A11 OVDD (power), AB4 VDD (power), AB31 VDD (power), AC4 GND (power), AC31 GND (power), AD4 OVDD (power), AD31 OVDD (power), AE1 GND (power), AE34 GND (power), AF4 OVDD (power), AF31 OVDD (power), AH4 OVDD (power), AH31 OVDD (power), AJ1 GND (power), AJ34 GND (power), AK4 OVDD (power), AK31 OVDD (power), AL4 GND (power), AL5 OVDD (power), AL7 OVDD (power), AL9 OVDD (power), AL11 OVDD (power), AL12 GND (power), AL13 VDD (power), AL15 VDD (power), AL16 VDD (power), AL17 GND (power), AL18 GND (power), AL19 VDD (power), AL20 VDD (power), AL22 VDD (power), AL23 GND (power), AL24 OVDD (power), AL26 OVDD (power), AL27 OVDD (power), AL28 OVDD (power), AL30 OVDD (power), AL31 GND (power), AM3 GND (power), AM6 OVDD (power), AM11 OVDD (power), AM17 GND (power), AM19 OVDD (power), AM23 OVDD (power), AM32 GND (power), AN1 GND (power), AN2 GND (power), AN32 OVDD (power), AN33 GND (power), AN34 GND (power), AP1 GND (power), AP2 GND (power), AP6 GND (power), AP10 GND (power), AP15 GND (power), AP17 OVDD (power), AP20 GND (power), AP25 GND (power), AP29 GND (power), AP33 GND (power), AP34 GND (power), B5 OVDD (power), B22 OVDD (power), C8 OVDD (power), C16 OVDD (power), D5 OVDD (power), D7 OVDD (power), D9 OVDD (power), D11 OVDD (power), D13 VDD (power), D15 VDD (power), D16 VDD (power), D19 VDD (power), D20 VDD (power), D22 VDD (power), D23 GND (power), D24 OVDD (power), D26 OVDD (power), D28 OVDD (power), D30 OVDD (power), D31 GND (power), E3 OVDD (power), E4 OVDD (power), E31 OVDD (power), F1 GND (power), F3 OVDD (power), F34 GND (power), G4 OVDD (power), G31 OVDD (power), J4 OVDD (power), J31 OVDD (power), K1 GND (power), K34 GND (power), L4 OVDD (power), L31 OVDD (power), L32 OVDD (power), M4 GND (power), M31 GND (power), M32 OVDD (power), M34 OVDD (power), N4 VDD (power), N31 VDD (power), R1 GND (power), R4 VDD (power), R31 VDD (power), R34 GND (power), T4 VDD (power), T31 VDD (power), U4 GND (power), U31 GND (power), V4 GND (power), V31 GND (power), W4 VDD (power), W31 VDD (power), Y1 GND (power), Y4 VDD (power), Y31 VDD (power), Y34 GND (power)
part E pins: A1 GND (power), A2 GND (power), A6 GND (power), A10 GND (power), A15 GND (power), A20 GND (power), A25 GND (power), A29 GND (power), A33 GND (power), A34 GND (power), AA13 GND (power) "Thermal Balls", AA14 GND (power) "Thermal Balls", AA15 GND (power) "Thermal Balls", AA16 GND (power) "Thermal Balls", AA17 GND (power) "Thermal Balls", AA18 GND (power) "Thermal Balls", AA19 GND (power) "Thermal Balls", AA20 GND (power) "Thermal Balls", AA21 GND (power) "Thermal Balls", AA22 GND (power) "Thermal Balls", AB13 GND (power) "Thermal Balls", AB14 GND (power) "Thermal Balls", AB15 GND (power) "Thermal Balls", AB16 GND (power) "Thermal Balls", AB17 GND (power) "Thermal Balls", AB18 GND (power) "Thermal Balls", AB19 GND (power) "Thermal Balls", AB20 GND (power) "Thermal Balls", AB21 GND (power) "Thermal Balls", AB22 GND (power) "Thermal Balls", B1 GND (power), B2 GND (power), B33 GND (power), B34 GND (power), C3 GND (power), C32 GND (power), D4 GND (power), D12 GND (power), D17 GND (power), D18 GND (power), N13 GND (power) "Thermal Balls", N14 GND (power) "Thermal Balls", N15 GND (power) "Thermal Balls", N16 GND (power) "Thermal Balls", N17 GND (power) "Thermal Balls", N18 GND (power) "Thermal Balls", N19 GND (power) "Thermal Balls", N20 GND (power) "Thermal Balls", N21 GND (power) "Thermal Balls", N22 GND (power) "Thermal Balls", P13 GND (power) "Thermal Balls", P14 GND (power) "Thermal Balls", P15 GND (power) "Thermal Balls", P16 GND (power) "Thermal Balls", P17 GND (power) "Thermal Balls", P18 GND (power) "Thermal Balls", P19 GND (power) "Thermal Balls", P20 GND (power) "Thermal Balls", P21 GND (power) "Thermal Balls", P22 GND (power) "Thermal Balls", R13 GND (power) "Thermal Balls", R14 GND (power) "Thermal Balls", R15 GND (power) "Thermal Balls", R16 GND (power) "Thermal Balls", R17 GND (power) "Thermal Balls", R18 GND (power) "Thermal Balls", R19 GND (power) "Thermal Balls", R20 GND (power) "Thermal Balls", R21 GND (power) "Thermal Balls", R22 GND (power) "Thermal Balls", T13 GND (power) "Thermal Balls", T14 GND (power) "Thermal Balls", T15 GND (power) "Thermal Balls", T16 GND (power) "Thermal Balls", T17 GND (power) "Thermal Balls", T18 GND (power) "Thermal Balls", T19 GND (power) "Thermal Balls", T20 GND (power) "Thermal Balls", T21 GND (power) "Thermal Balls", T22 GND (power) "Thermal Balls", U13 GND (power) "Thermal Balls", U14 GND (power) "Thermal Balls", U15 GND (power) "Thermal Balls", U16 GND (power) "Thermal Balls", U17 GND (power) "Thermal Balls", U18 GND (power) "Thermal Balls", U19 GND (power) "Thermal Balls", U20 GND (power) "Thermal Balls", U21 GND (power) "Thermal Balls", U22 GND (power) "Thermal Balls", V13 GND (power) "Thermal Balls", V14 GND (power) "Thermal Balls", V15 GND (power) "Thermal Balls", V16 GND (power) "Thermal Balls", V17 GND (power) "Thermal Balls", V18 GND (power) "Thermal Balls", V19 GND (power) "Thermal Balls", V20 GND (power) "Thermal Balls", V21 GND (power) "Thermal Balls", V22 GND (power) "Thermal Balls", W13 GND (power) "Thermal Balls", W14 GND (power) "Thermal Balls", W15 GND (power) "Thermal Balls", W16 GND (power) "Thermal Balls", W17 GND (power) "Thermal Balls", W18 GND (power) "Thermal Balls", W19 GND (power) "Thermal Balls", W20 GND (power) "Thermal Balls", W21 GND (power) "Thermal Balls", W22 GND (power) "Thermal Balls", Y13 GND (power) "Thermal Balls", Y14 GND (power) "Thermal Balls", Y15 GND (power) "Thermal Balls", Y16 GND (power) "Thermal Balls", Y17 GND (power) "Thermal Balls", Y18 GND (power) "Thermal Balls", Y19 GND (power) "Thermal Balls", Y20 GND (power) "Thermal Balls", Y21 GND (power) "Thermal Balls", Y22 GND (power) "Thermal Balls"

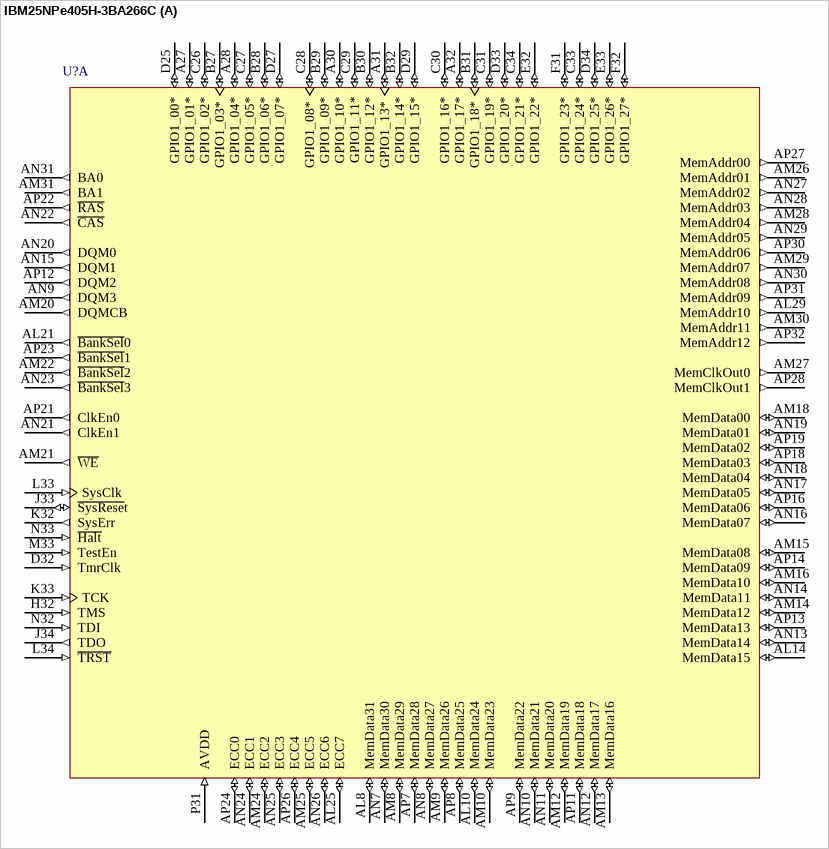
[diagram p6: symbol IBM25NPe405H-3BA266C]

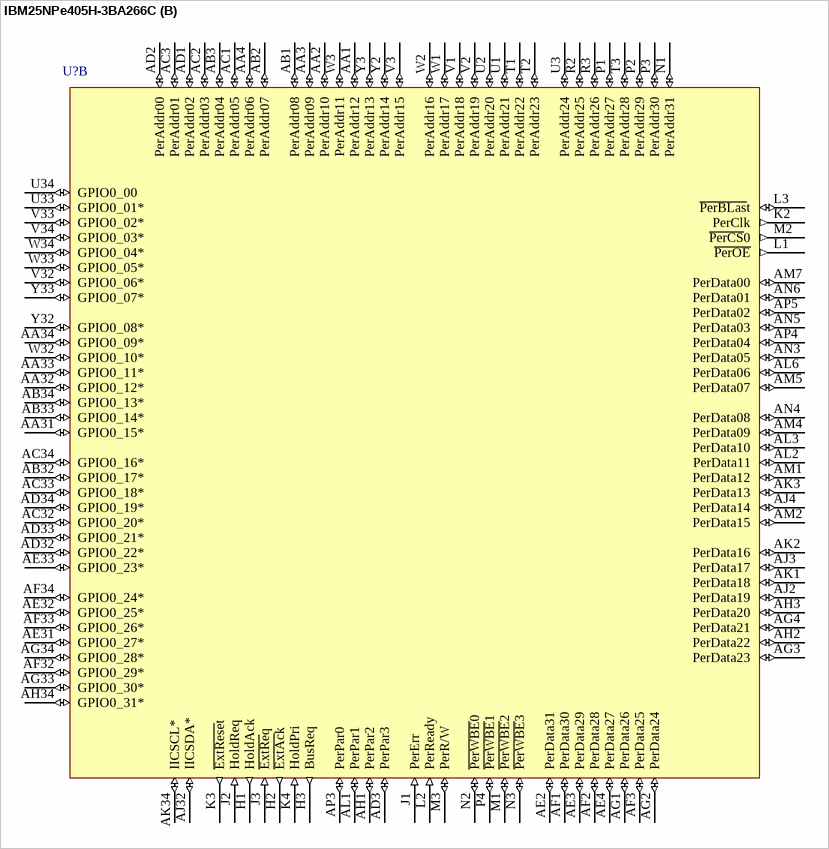
[diagram p7: symbol IBM25NPe405H-3BA266C]

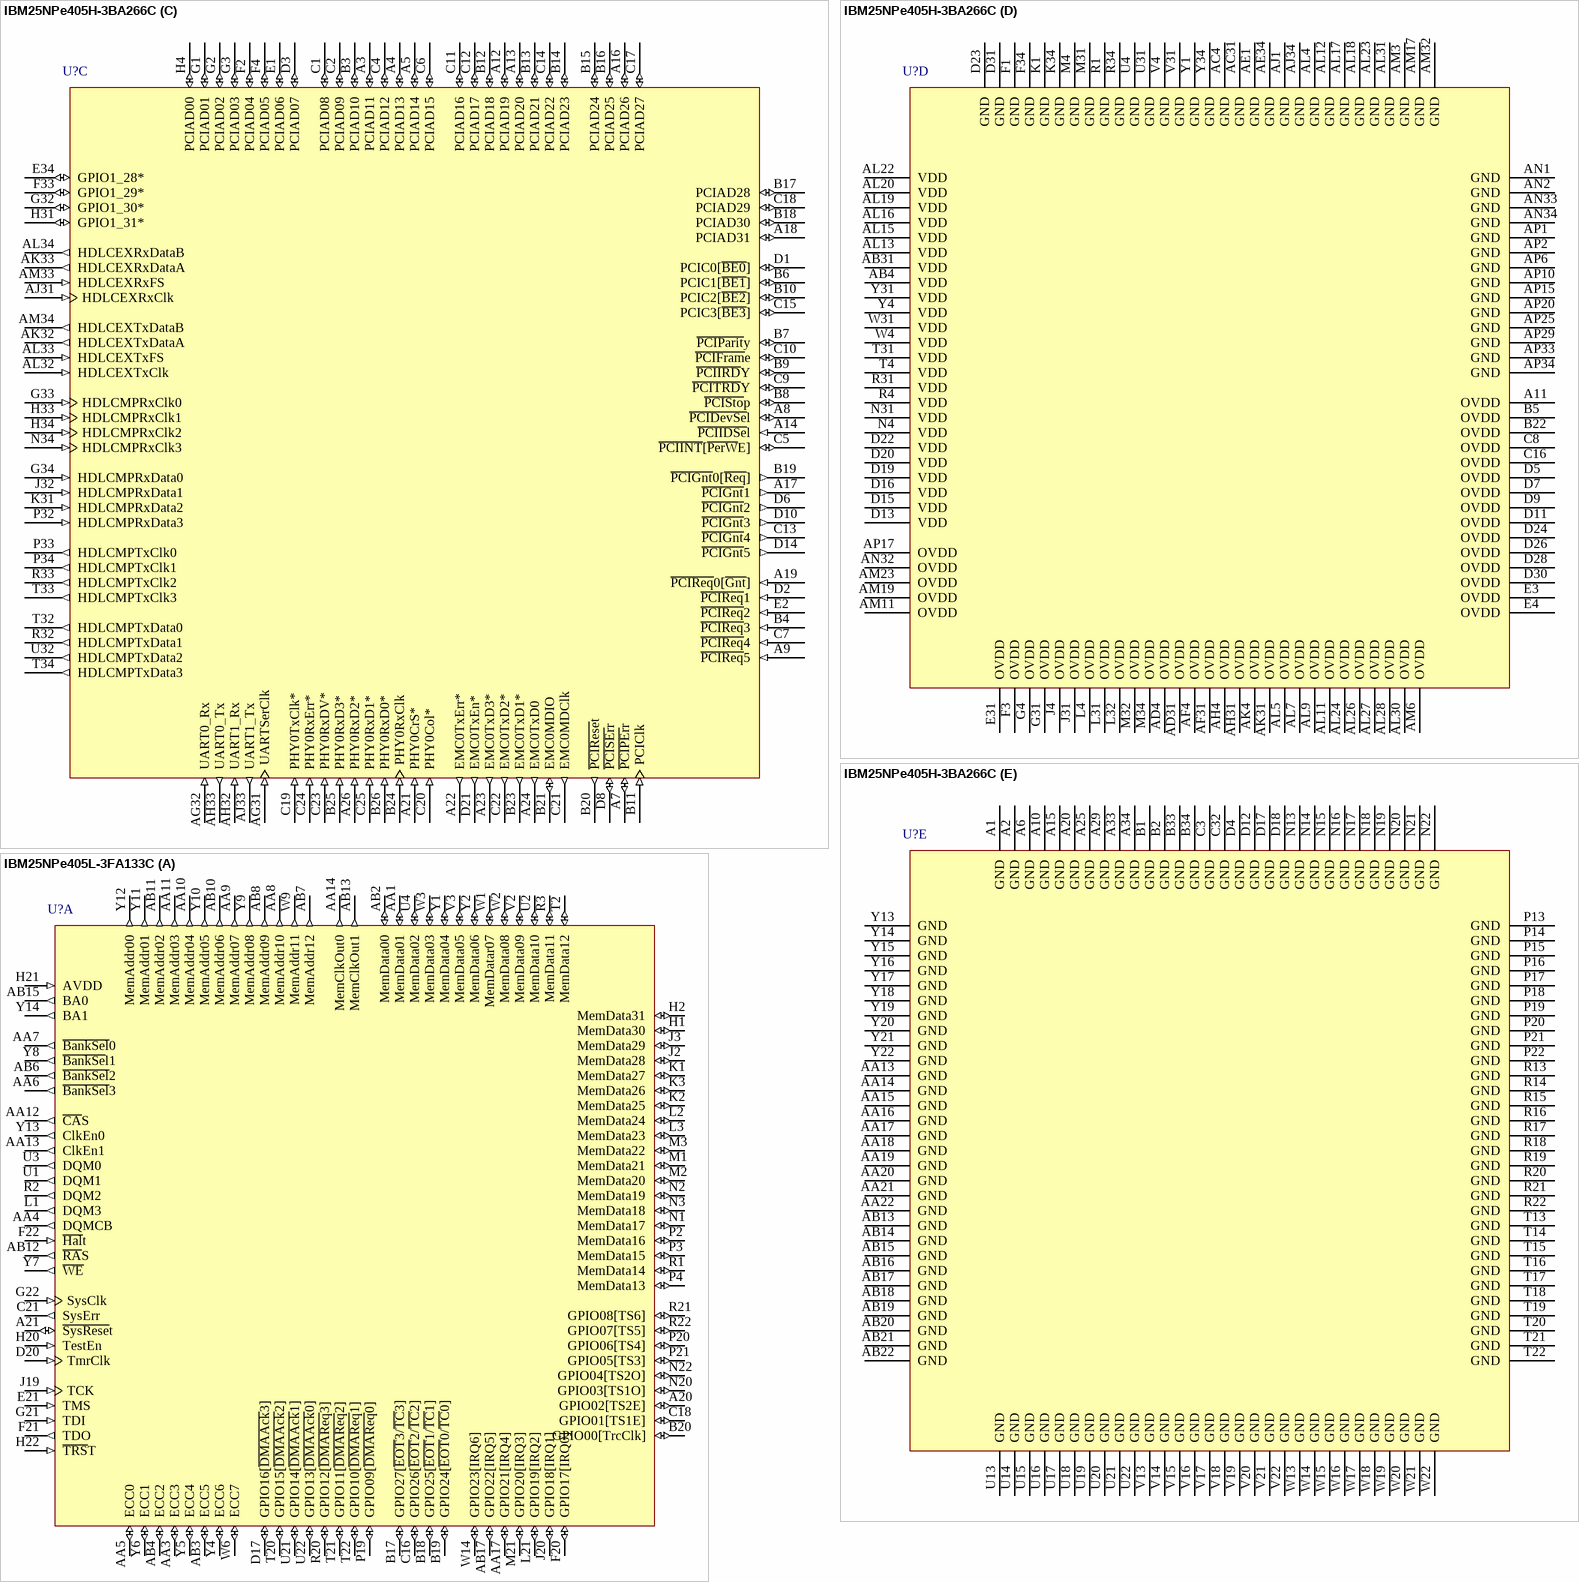
[diagram p8: symbols IBM25NPe405H-3BA266C to IBM25NPe405L-3FA133C]

## IBM25NPe405H-3BA266C
designator U?
PowerNP Technology with IBM PowerPC 405H Embedded Processor, 266MHz, 35mm, 580 Ball E-PBGA; Note: Pin names with asterisk have multiplexed and multipurpose signals. See description field for those functions.; Published: 6-Oct-2005; LatestRevisionDate: 13-Apr-2006; LatestRevisionNote: IPC-7351 Footprint Added.; DatasheetVersion: rev1.00, Sep-2004; PackageVersion: Sep-2004; PackageReference: E-PBGA580; Publisher: Altium Limited; PackageDescription: 580-Ball Enhanced Plastic Ball Grid Array; ComponentLink1Description: Manufacturer Link; ComponentLink1URL: http://www.amcc.com/; ComponentLink2Description: Datasheet; ComponentLink2URL: https://www.amcc.com/MyAMCC/retrieveDocument/PowerPC/NPe405/NPe405H_DS2011__v1_00.pdf
footprint E-PBGA580 (BGA, 580-Leads, Body 35x35mm, Pitch 1mm)
3D model NPe405H-E-PBGA580 (580-Ball Enhanced Plastic Ball Grid Array)
part A pins: A27 GPIO1_01* (io) "[HDLCMPTxData4][PHY1RxD1][PHY1Rx2D1]", A28 GPIO1_04* (io) "[HDLCMPRxData4][EMC1TxD0][EMC1Tx2D0]", A30 GPIO1_10* (io) "[HDLCMPTxClk6][PHY1CrS][PHY1CrS2DV]", A31 GPIO1_13* (io) "[HDLCMPRxClk6][PHY1RxClk]", A32 GPIO1_17* (io) "[HDLCMPTxEn7][PHY1TxClk]", AL8 MemData31 (io), AL10 MemData24 (io), AL14 MemData15 (io), AL21 ~{BankSel}0 (out), AL25 ECC7 (io), AL29 MemAddr10 (out), AM8 MemData29 (io), AM9 MemData26 (io), AM10 MemData23 (io), AM12 MemData19 (io), AM13 MemData16 (io), AM14 MemData12 (io), AM15 MemData08 (io), AM16 MemData10 (io), AM18 MemData00 (io), AM20 DQMCB (out), AM21 ~{WE} (out), AM22 ~{BankSel}2 (out), AM24 ECC2 (io), AM25 ECC5 (io), AM26 MemAddr01 (out), AM27 MemClkOut0 (out), AM28 MemAddr04 (out), AM29 MemAddr07 (out), AM30 MemAddr11 (out), AM31 BA1 (out), AN7 MemData30 (io), AN8 MemData27 (io), AN9 DQM3 (out), AN10 MemData21 (io), AN11 MemData20 (io), AN12 MemData17 (io), AN13 MemData14 (io), AN14 MemData11 (io), AN15 DQM1 (out), AN16 MemData07 (io), AN17 MemData05 (io), AN18 MemData04 (io), AN19 MemData01 (io), AN20 DQM0 (out), AN21 ClkEn1 (out), AN22 ~{CAS} (out), AN23 ~{BankSel}3 (out), AN24 ECC1 (io), AN25 ECC3 (io), AN26 ECC6 (io), AN27 MemAddr02 (out), AN28 MemAddr03 (out), AN29 MemAddr05 (out), AN30 MemAddr08 (out), AN31 BA0 (out), AP7 MemData28 (io), AP8 MemData25 (io), AP9 MemData22 (io), AP11 MemData18 (io), AP12 DQM2 (out), AP13 MemData13 (io), AP14 MemData09 (io), AP16 MemData06 (io), AP18 MemData03 (io), AP19 MemData02 (io), AP21 ClkEn0 (out), AP22 ~{RAS} (out), AP23 ~{BankSel}1 (out), AP24 ECC0 (io), AP26 ECC4 (io), AP27 MemAddr00 (out), AP28 MemClkOut1 (out), AP30 MemAddr06 (out), AP31 MemAddr09 (out), AP32 MemAddr12 (out), B27 GPIO1_03* (io) "[HDLCMPRxClk4][PHY1RxD3][PHY1Rx3D1]", B28 GPIO1_06* (io) "[HDLCMPTxData5][EMC1TxD2][EMC1Tx3D0]", B29 GPIO1_09* (io) "[HDLCMPRxData5][PHY1CrS3DV][PHY1RxDV]", B30 GPIO1_12* (io) "[HDLCMPTxEn6][EMC1TxEn][EMC1Tx2En]", B31 GPIO1_18* (io) "[HDLCMPRxClk7]", B32 GPIO1_14* (io) "[HDLCMPRxData6][PHY1Col][PHY1Rx3Er]", C26 GPIO1_02* (io) "[HDLCMPTxEn4][PHY1RxD2][PHY1Rx3D0]", C27 GPIO1_05* (io) "[HDLCMPTxClk5][EMC1TxD1][EMC1Tx2D1]", C28 GPIO1_08* (io) "[HDLCMPRxClk5][PHY1RxErr][PHY1Rx2Er]", C29 GPIO1_11* (io) "[HDLCMPTxData6][EMC1TxErr][EMC1Tx3En]", C30 GPIO1_16* (io) "[HDLCMPTxData7]", C31 GPIO1_19* (io) "[HDLCMPRxData7]", C33 GPIO1_24* (io) "[HDLCEXTxEnA][U\A\R\T\1_\R\T\S]", C34 GPIO1_21* (io) "[HDLCMPTxEn1][U\A\R\T\1\_\D\S\R]", D25 GPIO1_00* (io) "[HDLCMPTxClk4][PHY1RxD0][PHY1Rx2D0]", D27 GPIO1_07* (io) "[HDLCMPTxEn5][EMC1TxD3][EMC1Tx3D1]", D29 GPIO1_15* (io) "[HDLCMPTxClk7]", D32 TmrClk (in), D33 GPIO1_20* (io) "[HDLCMPTxEn0][U\A\R\T\1\_\C\T\S]", D34 GPIO1_25* (io) "[HDLCEXTxEnB][U\A\R\T\1\_D\T\R]", E32 GPIO1_22* (io) "[HDLCMPTxEn2][U\A\R\T\1\_D\C\D]", E33 GPIO1_26* (io) "[U\A\R\T\0\_\C\T\S]", F31 GPIO1_23* (io) "[HDLCMPTxEn3][U\A\R\T\1\_R\I]", F32 GPIO1_27* (io) "[U\A\R\T\0_\D\S\R]", H32 TMS (in), J33 ~{SysRese}t (io), J34 TDO (out), K32 SysErr (out), K33 TCK (in), L33 SysClk (in), L34 ~{TRST} (in), M33 TestEn (in), N32 TDI (in), N33 ~{Halt} (in), P31 AVDD (in)
part B pins: AA1 PerAddr12 (io), AA2 PerAddr10 (io), AA3 PerAddr09 (io), AA4 PerAddr06 (io), AA31 GPIO0_15* (io) "[D\M\A\A\c\k\2]", AA32 GPIO0_12* (io) "[D\M\A\R\e\q\3][P\e\r\C\S\4]", AA33 GPIO0_11* (io) "[D\M\A\R\e\q\2]", AA34 GPIO0_09* (io) "[D\M\A\R\e\q\0]", AB1 PerAddr08 (io), AB2 PerAddr07 (io), AB3 PerAddr04 (io), AB32 GPIO0_17* (io) "[IRQ0]", AB33 GPIO0_14* (io) "[D\M\A\A\c\k\1]", AB34 GPIO0_13* (io) "[D\M\A\A\c\k\0]", AC1 PerAddr05 (io), AC2 PerAddr03 (io), AC3 PerAddr01 (io), AC32 GPIO0_20* (io) "[IRQ3]", AC33 GPIO0_18* (io) "[IRQ1]", AC34 GPIO0_16* (io) "[D\M\A\A\c\k\3][P\e\r\C\S\5]", AD1 PerAddr02 (io), AD2 PerAddr00 (io), AD3 PerPar3 (io), AD32 GPIO0_22* (io) "[IRQ5]", AD33 GPIO0_21* (io) "[IRQ4]", AD34 GPIO0_19* (io) "[IRQ2]", AE2 PerData31 (io), AE3 PerData29 (io), AE4 PerData27 (io), AE31 GPIO0_27* (io) "[E\O\T\3\/T\C\3][P\e\r\C\S\7]", AE32 GPIO0_25* (io) "[E\O\T\1\/T\C\1]", AE33 GPIO0_23* (io) "[IRQ6][P\e\r\C\S\6]", AF1 PerData30 (io), AF2 PerData28 (io), AF3 PerData25 (io), AF32 GPIO0_29* (io) "[P\e\r\C\S\2]", AF33 GPIO0_26* (io) "[E\O\T\2\/T\C\2]", AF34 GPIO0_24* (io) "[E\O\T\0/T\C\0]", AG1 PerData26 (io), AG2 PerData24 (io), AG3 PerData23 (io), AG4 PerData21 (io), AG33 GPIO0_30* (io) "[P\e\r\C\S\3]", AG34 GPIO0_28* (io) "[P\e\r\C\S\1]", AH1 PerPar2 (io), AH2 PerData22 (io), AH3 PerData20 (io), AH34 GPIO0_31* (io) "[TrcClk]", AJ2 PerData19 (io), AJ3 PerData17 (io), AJ4 PerData14 (io), AJ32 IICSDA* (io) "[IECSDA]", AK1 PerData18 (io), AK2 PerData16 (io), AK3 PerData13 (io), AK34 IICSCL* (io) "[IECSCL]", AL1 PerPar1 (io), AL2 PerData11 (io), AL3 PerData10 (io), AL6 PerData06 (io), AM1 PerData12 (io), AM2 PerData15 (io), AM4 PerData09 (io), AM5 PerData07 (io), AM7 PerData00 (io), AN3 PerData05 (io), AN4 PerData08 (io), AN5 PerData03 (io), AN6 PerData01 (io), AP3 PerPar0 (io), AP4 PerData04 (io), AP5 PerData02 (io), H1 HoldAck (out), H2 ~{ExtAc}k (out), H3 BusReq (out), J1 PerErr (in), J2 HoldReq (in), J3 ~{ExtRe}q (in), K2 PerClk (out), K3 ~{ExtRese}t (out), K4 HoldPri (in), L1 ~{PerOE} (out), L2 PerReady (in), L3 ~{PerBLas}t (io), M1 ~{PerWBE}2 (io), M2 ~{PerCS}0 (out), M3 PerR/W (io), N1 PerAddr31 (io), N2 ~{PerWBE}0 (io), N3 ~{PerWBE}3 (io), P1 PerAddr27 (io), P2 PerAddr29 (io), P3 PerAddr30 (io), P4 ~{PerWBE}1 (io), R2 PerAddr25 (io), R3 PerAddr26 (io), T1 PerAddr22 (io), T2 PerAddr23 (io), T3 PerAddr28 (io), U1 PerAddr21 (io), U2 PerAddr20 (io), U3 PerAddr24 (io), U33 GPIO0_01* (io) "[TS1E]", U34 GPIO0_00 (io), V1 PerAddr18 (io), V2 PerAddr19 (io), V3 PerAddr15 (io), V32 GPIO0_06* (io) "[TS4]", V33 GPIO0_02* (io) "[TS2E]", V34 GPIO0_03* (io) "[TS1O]", W1 PerAddr17 (io), W2 PerAddr16 (io), W3 PerAddr11 (io), W32 GPIO0_10* (io) "[D\MA\R\e\q\1]", W33 GPIO0_05* (io) "[TS3]", W34 GPIO0_04* (io) "[TS2O]", Y2 PerAddr14 (io), Y3 PerAddr13 (io), Y32 GPIO0_08* (io) "[TS6]", Y33 GPIO0_07* (io) "[TS5]"
part C pins: A3 PCIAD11 (io), A4 PCIAD13 (io), A5 PCIAD14 (io), A7 ~{PCIPEr}r (io), A8 ~{PCIDevSe}l (io), A9 ~{PCIReq}5 (in), A12 PCIAD19 (io), A13 PCIAD20 (io), A14 ~{PCIIDSe}l (in), A16 PCIAD26 (io), A17 ~{PCIGnt}1 (out), A18 PCIAD31 (io), A19 ~{PCIReq}0[~{Gnt}] (in), A21 PHY0CrS* (in) "[PHY0CrS0DV]", A22 EMC0TxErr* (out) "[EMC0Tx1En]", A23 EMC0TxD3* (out) "[EMC0Tx1D1][EMC0Tx3D]", A24 EMC0TxD0 (out), A26 PHY0RxD2* (in) "[PHY0Rx1D0][PHY0Rx2D]", AG31 UARTSerClk (in), AG32 UART0_Rx (in), AH32 UART1_Rx (in), AH33 UART0_Tx (out), AJ31 HDLCEXRxClk (in), AJ33 UART1_Tx (out), AK32 HDLCEXTxDataA (out), AK33 HDLCEXRxDataA (out), AL32 HDLCEXTxClk (in), AL33 HDLCEXTxFS (in), AL34 HDLCEXRxDataB (out), AM33 HDLCEXRxFS (in), AM34 HDLCEXTxDataB (out), B3 PCIAD10 (io), B4 ~{PCIReq}3 (in), B6 PCIC1[~{BE1}] (io), B7 ~{PCIParit}y (io), B8 ~{PCISto}p (io), B9 ~{PCIIRD}Y (io), B10 PCIC2[~{BE2}] (io), B11 PCIClk (in), B12 PCIAD18 (io), B13 PCIAD21 (io), B14 PCIAD23 (io), B15 PCIAD24 (io), B16 PCIAD25 (io), B17 PCIAD28 (io), B18 PCIAD30 (io), B19 ~{PCIGnt}0[~{Req}] (out), B20 ~{PCIRese}t (out), B21 EMC0MDIO (io), B23 EMC0TxD1* (out) "[EMC0Tx0D1][EMC0Tx1D]", B24 PHY0RxClk (in), B25 PHY0RxD3* (in) "[PHY0Rx1D1][PHY0Rx3D]", B26 PHY0RxD0* (in) "[PHY0Rx0D0][PHY0Rx0D]", C1 PCIAD08 (io), C2 PCIAD09 (io), C4 PCIAD12 (io), C5 ~{PCIINT}[~{PerW}E] (io), C6 PCIAD15 (io), C7 ~{PCIReq}4 (in), C9 ~{PCITRD}Y (io), C10 ~{PCIFram}e (io), C11 PCIAD16 (io), C12 PCIAD17 (io), C13 ~{PCIGnt}4 (out), C14 PCIAD22 (io), C15 PCIC3[~{BE3}] (io), C17 PCIAD27 (io), C18 PCIAD29 (io), C19 PHY0TxClk* (in) "[PHY0RefClk]", C20 PHY0Col* (in) "[PHY0Rx1Er]", C21 EMC0MDClk (out), C22 EMC0TxD2* (out) "[EMC0Tx1D0][EMC0Tx2D]", C23 PHY0RxDV* (in) "[PHY0CrS1DV]", C24 PHY0RxErr* (in) "[PHY0Rx0Er]", C25 PHY0RxD1* (in) "[PHY0Rx0D1][PHY0Rx1D]", D1 PCIC0[~{BE0}] (io), D2 ~{PCIReq}1 (in), D3 PCIAD07 (io), D6 ~{PCIGnt}2 (out), D8 ~{PCISEr}r (io), D10 ~{PCIGnt}3 (out), D14 ~{PCIGnt}5 (out), D21 EMC0TxEn* (out) "[EMC0Tx0En][EMC0Sync]", E1 PCIAD06 (io), E2 ~{PCIReq}2 (in), E34 GPIO1_28* (io) "[U\A\R\T\0\_\D\C\D]", F2 PCIAD04 (io), F4 PCIAD05 (io), F33 GPIO1_29* (io) "[U\A\R\T\0\_R\I\]x", G1 PCIAD01 (io), G2 PCIAD02 (io), G3 PCIAD03 (io), G32 GPIO1_30* (io) "[U\A\R\T\0\_R\T\S]", G33 HDLCMPRxClk0 (in), G34 HDLCMPRxData0 (in), H4 PCIAD00 (io), H31 GPIO1_31* (io) "[U\A\R\T\0\_\D\T\R]", H33 HDLCMPRxClk1 (in), H34 HDLCMPRxClk2 (in), J32 HDLCMPRxData1 (in), K31 HDLCMPRxData2 (in), N34 HDLCMPRxClk3 (in), P32 HDLCMPRxData3 (in), P33 HDLCMPTxClk0 (out), P34 HDLCMPTxClk1 (out), R32 HDLCMPTxData1 (out), R33 HDLCMPTxClk2 (out), T32 HDLCMPTxData0 (out), T33 HDLCMPTxClk3 (out), T34 HDLCMPTxData3 (out), U32 HDLCMPTxData2 (out)
part D pins: A11 OVDD (power), AB4 VDD (power), AB31 VDD (power), AC4 GND (power), AC31 GND (power), AD4 OVDD (power), AD31 OVDD (power), AE1 GND (power), AE34 GND (power), AF4 OVDD (power), AF31 OVDD (power), AH4 OVDD (power), AH31 OVDD (power), AJ1 GND (power), AJ34 GND (power), AK4 OVDD (power), AK31 OVDD (power), AL4 GND (power), AL5 OVDD (power), AL7 OVDD (power), AL9 OVDD (power), AL11 OVDD (power), AL12 GND (power), AL13 VDD (power), AL15 VDD (power), AL16 VDD (power), AL17 GND (power), AL18 GND (power), AL19 VDD (power), AL20 VDD (power), AL22 VDD (power), AL23 GND (power), AL24 OVDD (power), AL26 OVDD (power), AL27 OVDD (power), AL28 OVDD (power), AL30 OVDD (power), AL31 GND (power), AM3 GND (power), AM6 OVDD (power), AM11 OVDD (power), AM17 GND (power), AM19 OVDD (power), AM23 OVDD (power), AM32 GND (power), AN1 GND (power), AN2 GND (power), AN32 OVDD (power), AN33 GND (power), AN34 GND (power), AP1 GND (power), AP2 GND (power), AP6 GND (power), AP10 GND (power), AP15 GND (power), AP17 OVDD (power), AP20 GND (power), AP25 GND (power), AP29 GND (power), AP33 GND (power), AP34 GND (power), B5 OVDD (power), B22 OVDD (power), C8 OVDD (power), C16 OVDD (power), D5 OVDD (power), D7 OVDD (power), D9 OVDD (power), D11 OVDD (power), D13 VDD (power), D15 VDD (power), D16 VDD (power), D19 VDD (power), D20 VDD (power), D22 VDD (power), D23 GND (power), D24 OVDD (power), D26 OVDD (power), D28 OVDD (power), D30 OVDD (power), D31 GND (power), E3 OVDD (power), E4 OVDD (power), E31 OVDD (power), F1 GND (power), F3 OVDD (power), F34 GND (power), G4 OVDD (power), G31 OVDD (power), J4 OVDD (power), J31 OVDD (power), K1 GND (power), K34 GND (power), L4 OVDD (power), L31 OVDD (power), L32 OVDD (power), M4 GND (power), M31 GND (power), M32 OVDD (power), M34 OVDD (power), N4 VDD (power), N31 VDD (power), R1 GND (power), R4 VDD (power), R31 VDD (power), R34 GND (power), T4 VDD (power), T31 VDD (power), U4 GND (power), U31 GND (power), V4 GND (power), V31 GND (power), W4 VDD (power), W31 VDD (power), Y1 GND (power), Y4 VDD (power), Y31 VDD (power), Y34 GND (power)
part E pins: A1 GND (power), A2 GND (power), A6 GND (power), A10 GND (power), A15 GND (power), A20 GND (power), A25 GND (power), A29 GND (power), A33 GND (power), A34 GND (power), AA13 GND (power) "Thermal Balls", AA14 GND (power) "Thermal Balls", AA15 GND (power) "Thermal Balls", AA16 GND (power) "Thermal Balls", AA17 GND (power) "Thermal Balls", AA18 GND (power) "Thermal Balls", AA19 GND (power) "Thermal Balls", AA20 GND (power) "Thermal Balls", AA21 GND (power) "Thermal Balls", AA22 GND (power) "Thermal Balls", AB13 GND (power) "Thermal Balls", AB14 GND (power) "Thermal Balls", AB15 GND (power) "Thermal Balls", AB16 GND (power) "Thermal Balls", AB17 GND (power) "Thermal Balls", AB18 GND (power) "Thermal Balls", AB19 GND (power) "Thermal Balls", AB20 GND (power) "Thermal Balls", AB21 GND (power) "Thermal Balls", AB22 GND (power) "Thermal Balls", B1 GND (power), B2 GND (power), B33 GND (power), B34 GND (power), C3 GND (power), C32 GND (power), D4 GND (power), D12 GND (power), D17 GND (power), D18 GND (power), N13 GND (power) "Thermal Balls", N14 GND (power) "Thermal Balls", N15 GND (power) "Thermal Balls", N16 GND (power) "Thermal Balls", N17 GND (power) "Thermal Balls", N18 GND (power) "Thermal Balls", N19 GND (power) "Thermal Balls", N20 GND (power) "Thermal Balls", N21 GND (power) "Thermal Balls", N22 GND (power) "Thermal Balls", P13 GND (power) "Thermal Balls", P14 GND (power) "Thermal Balls", P15 GND (power) "Thermal Balls", P16 GND (power) "Thermal Balls", P17 GND (power) "Thermal Balls", P18 GND (power) "Thermal Balls", P19 GND (power) "Thermal Balls", P20 GND (power) "Thermal Balls", P21 GND (power) "Thermal Balls", P22 GND (power) "Thermal Balls", R13 GND (power) "Thermal Balls", R14 GND (power) "Thermal Balls", R15 GND (power) "Thermal Balls", R16 GND (power) "Thermal Balls", R17 GND (power) "Thermal Balls", R18 GND (power) "Thermal Balls", R19 GND (power) "Thermal Balls", R20 GND (power) "Thermal Balls", R21 GND (power) "Thermal Balls", R22 GND (power) "Thermal Balls", T13 GND (power) "Thermal Balls", T14 GND (power) "Thermal Balls", T15 GND (power) "Thermal Balls", T16 GND (power) "Thermal Balls", T17 GND (power) "Thermal Balls", T18 GND (power) "Thermal Balls", T19 GND (power) "Thermal Balls", T20 GND (power) "Thermal Balls", T21 GND (power) "Thermal Balls", T22 GND (power) "Thermal Balls", U13 GND (power) "Thermal Balls", U14 GND (power) "Thermal Balls", U15 GND (power) "Thermal Balls", U16 GND (power) "Thermal Balls", U17 GND (power) "Thermal Balls", U18 GND (power) "Thermal Balls", U19 GND (power) "Thermal Balls", U20 GND (power) "Thermal Balls", U21 GND (power) "Thermal Balls", U22 GND (power) "Thermal Balls", V13 GND (power) "Thermal Balls", V14 GND (power) "Thermal Balls", V15 GND (power) "Thermal Balls", V16 GND (power) "Thermal Balls", V17 GND (power) "Thermal Balls", V18 GND (power) "Thermal Balls", V19 GND (power) "Thermal Balls", V20 GND (power) "Thermal Balls", V21 GND (power) "Thermal Balls", V22 GND (power) "Thermal Balls", W13 GND (power) "Thermal Balls", W14 GND (power) "Thermal Balls", W15 GND (power) "Thermal Balls", W16 GND (power) "Thermal Balls", W17 GND (power) "Thermal Balls", W18 GND (power) "Thermal Balls", W19 GND (power) "Thermal Balls", W20 GND (power) "Thermal Balls", W21 GND (power) "Thermal Balls", W22 GND (power) "Thermal Balls", Y13 GND (power) "Thermal Balls", Y14 GND (power) "Thermal Balls", Y15 GND (power) "Thermal Balls", Y16 GND (power) "Thermal Balls", Y17 GND (power) "Thermal Balls", Y18 GND (power) "Thermal Balls", Y19 GND (power) "Thermal Balls", Y20 GND (power) "Thermal Balls", Y21 GND (power) "Thermal Balls", Y22 GND (power) "Thermal Balls"

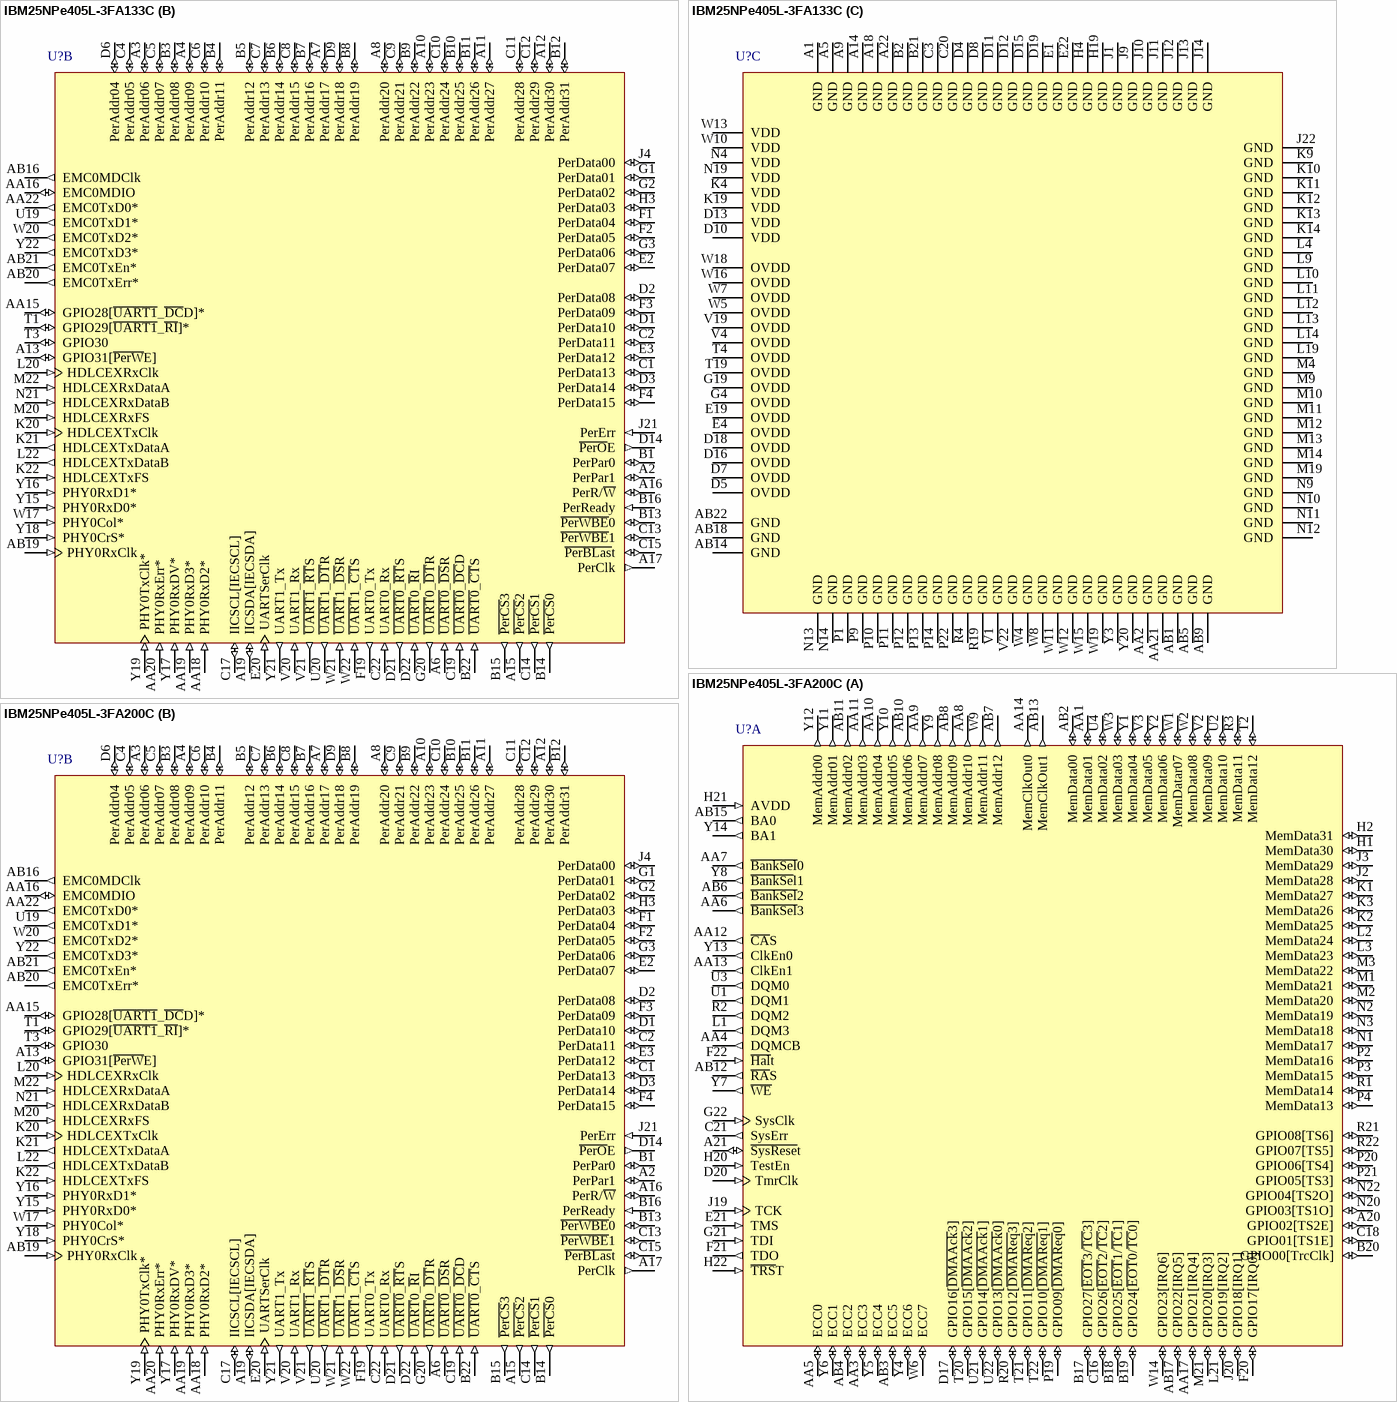
[diagram p9: symbols IBM25NPe405L-3FA133C to IBM25NPe405L-3FA200C]